# Altium integrated library Renesas Microprocessor SuperH.IntLib: 433 symbols (part 57 of 62)
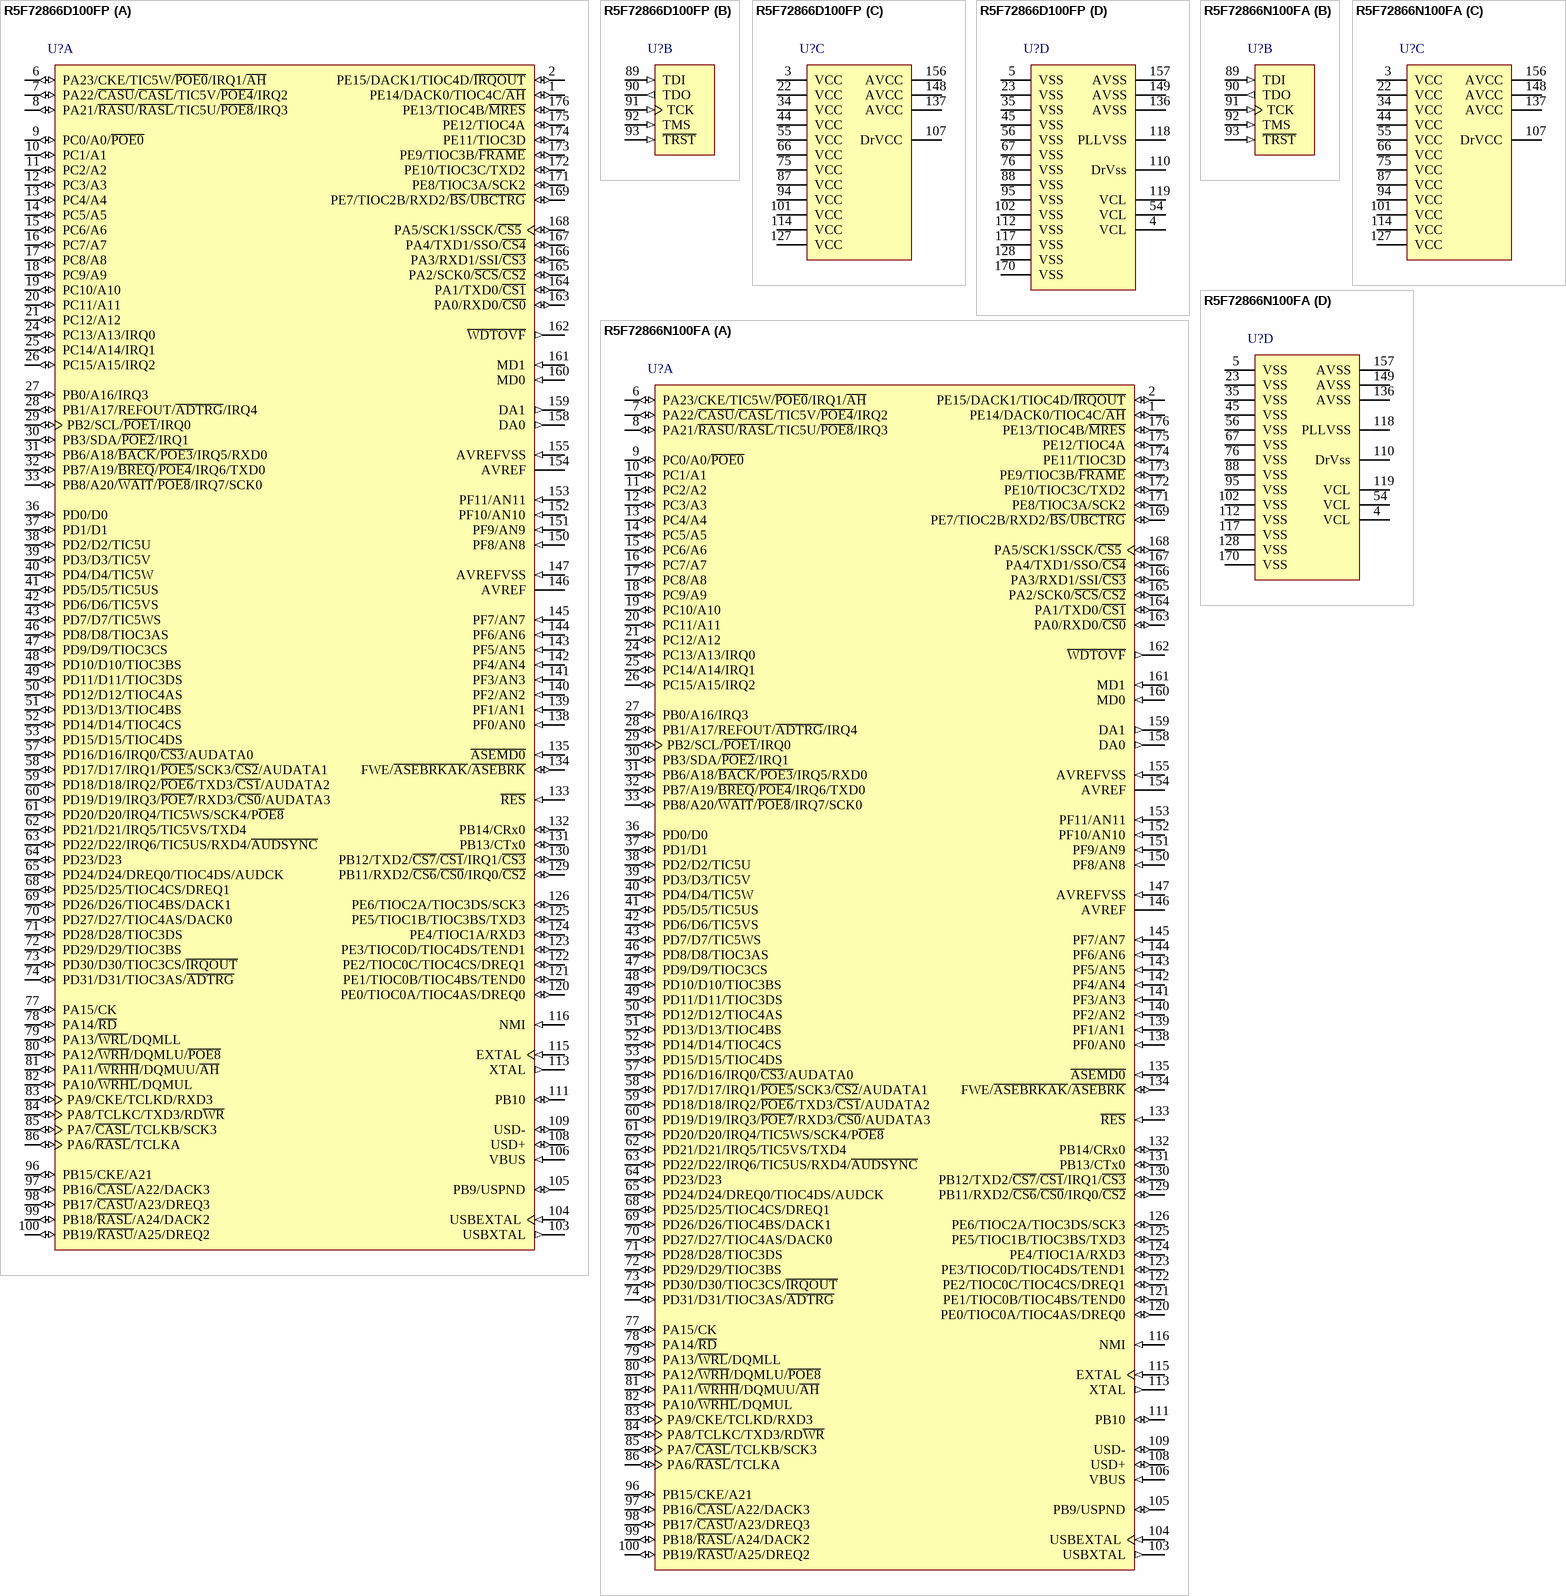
[diagram p314: symbols R5F72866D100FP to R5F72866N100FA]

## R5F72866N100FA
designator U?
32-Bit RISC Microcomputer, SH7280 Series, SH-2A core, 100MHz, 768K ROM, 32K RAM, 20x20mm 176-pin PLQFP, -20 to 85°C; Published: 28-Aug-2009; DatasheetVersion: Rev.1.00, Jun-2008; PackageVersion: Sep-2005; PackageReference: PLQP0176LB-A; Publisher: Altium Limited; PackageDescription: 176-Pin Plastic Low Profile QFP, 20 x 20 x 1.4 mm Body, 0.4 mm Pitch; Code_JEITA: P-LQFP176-20x20-0.40; ComponentLink1Description: Manufacturer Link; ComponentLink1URL: http://www.renesas.com/fmwk.jsp?cnt=sh7286_root.jsp&fp=/products/mpumcu/superh_family/sh7280_series/sh7286_group/; ComponentLink2Description: Datasheet; ComponentLink2URL: http://documentation.renesas.com/eng/products/mpumcu/rej09b0393_sh7280hm.pdf; ComponentLink3Description: Packaging Specification; ComponentLink3URL: http://sg.renesas.com/media/products/common_info/package/pdf/ic/code/plqp0176lb_a.pdf
footprint PLQP0176LB-A_N (Shrink QFP, 176-Leads, Body 20x20mm, Pitch 0.4mm, IPC Medium Density)
footprint PLQP0176LB-A_L (Shrink QFP, 176-Leads, Body 20x20mm, Pitch 0.4mm, IPC High Density)
footprint PLQP0176LB-A_M (Shrink QFP, 176-Leads, Body 20x20mm, Pitch 0.4mm, IPC Low Density)
part A pins: 1 PE14/DACK0/TIOC4C/~{AH} (io), 2 PE15/DACK1/TIOC4D/~{IRQOUT} (io), 6 PA23/CKE/TIC5W/~{POE0}/IRQ1/~{AH} (io), 7 PA22/~{CASU}/~{CASL}/TIC5V/~{POE4}/IRQ2 (io), 8 PA21/~{RASU}/~{RASL}/TIC5U/~{POE8}/IRQ3 (io), 9 PC0/A0/~{POE0} (io), 10 PC1/A1 (io), 11 PC2/A2 (io), 12 PC3/A3 (io), 13 PC4/A4 (io), 14 PC5/A5 (io), 15 PC6/A6 (io), 16 PC7/A7 (io), 17 PC8/A8 (io), 18 PC9/A9 (io), 19 PC10/A10 (io), 20 PC11/A11 (io), 21 PC12/A12 (io), 24 PC13/A13/IRQ0 (io), 25 PC14/A14/IRQ1 (io), 26 PC15/A15/IRQ2 (io), 27 PB0/A16/IRQ3 (io), 28 PB1/A17/REFOUT/~{ADTRG}/IRQ4 (io), 29 PB2/SCL/~{POE1}/IRQ0 (io), 30 PB3/SDA/~{POE2}/IRQ1 (io), 31 PB6/A18/~{BACK}/~{POE3}/IRQ5/RXD0 (io), 32 PB7/A19/~{BREQ}/~{POE4}/IRQ6/TXD0 (io), 33 PB8/A20/~{WAIT}/~{POE8}/IRQ7/SCK0 (io), 36 PD0/D0 (io), 37 PD1/D1 (io), 38 PD2/D2/TIC5U (io), 39 PD3/D3/TIC5V (io), 40 PD4/D4/TIC5W (io), 41 PD5/D5/TIC5US (io), 42 PD6/D6/TIC5VS (io), 43 PD7/D7/TIC5WS (io), 46 PD8/D8/TIOC3AS (io), 47 PD9/D9/TIOC3CS (io), 48 PD10/D10/TIOC3BS (io), 49 PD11/D11/TIOC3DS (io), 50 PD12/D12/TIOC4AS (io), 51 PD13/D13/TIOC4BS (io), 52 PD14/D14/TIOC4CS (io), 53 PD15/D15/TIOC4DS (io), 57 PD16/D16/IRQ0/~{CS3}/AUDATA0 (io), 58 PD17/D17/IRQ1/~{POE5}/SCK3/~{CS2}/AUDATA1 (io), 59 PD18/D18/IRQ2/~{POE6}/TXD3/~{CS1}/AUDATA2 (io), 60 PD19/D19/IRQ3/~{POE7}/RXD3/~{CS0}/AUDATA3 (io), 61 PD20/D20/IRQ4/TIC5WS/SCK4/P~{OE8} (io), 62 PD21/D21/IRQ5/TIC5VS/TXD4 (io), 63 PD22/D22/IRQ6/TIC5US/RXD4/~{AUDSYNC} (io), 64 PD23/D23 (io), 65 PD24/D24/DREQ0/TIOC4DS/AUDCK (io), 68 PD25/D25/TIOC4CS/DREQ1 (io), 69 PD26/D26/TIOC4BS/DACK1 (io), 70 PD27/D27/TIOC4AS/DACK0 (io), 71 PD28/D28/TIOC3DS (io), 72 PD29/D29/TIOC3BS (io), 73 PD30/D30/TIOC3CS/~{IRQOUT} (io), 74 PD31/D31/TIOC3AS/~{ADTRG} (io), 77 PA15/CK (io), 78 PA14/~{RD} (io), 79 PA13/~{WRL}/DQMLL (io), 80 PA12/~{WRH}/DQMLU/~{POE8} (io), 81 PA11/~{WRHH}/DQMUU/~{AH} (io), 82 PA10/~{WRHL}/DQMUL (io), 83 PA9/CKE/TCLKD/RXD3 (io), 84 PA8/TCLKC/TXD3/RD~{WR} (io), 85 PA7/~{CASL}/TCLKB/SCK3 (io), 86 PA6/~{RASL}/TCLKA (io), 96 PB15/CKE/A21 (io), 97 PB16/~{CASL}/A22/DACK3 (io), 98 PB17/~{CASU}/A23/DREQ3 (io), 99 PB18/~{RASL}/A24/DACK2 (io), 100 PB19/~{RASU}/A25/DREQ2 (io), 103 USBXTAL (out), 104 USBEXTAL (in), 105 PB9/USPND (io), 106 VBUS (in), 108 USD+ (io), 109 USD- (io), 111 PB10 (io), 113 XTAL (out), 115 EXTAL (in), 116 NMI (in), 120 PE0/TIOC0A/TIOC4AS/DREQ0 (io), 121 PE1/TIOC0B/TIOC4BS/TEND0 (io), 122 PE2/TIOC0C/TIOC4CS/DREQ1 (io), 123 PE3/TIOC0D/TIOC4DS/TEND1 (io), 124 PE4/TIOC1A/RXD3 (io), 125 PE5/TIOC1B/TIOC3BS/TXD3 (io), 126 PE6/TIOC2A/TIOC3DS/SCK3 (io), 129 PB11/RXD2/~{CS6}/~{CS0}/IRQ0/~{CS2} (io), 130 PB12/TXD2/~{CS7}/~{CS1}/IRQ1/~{CS3} (io), 131 PB13/CTx0 (io), 132 PB14/CRx0 (io), 133 ~{RES} (in), 134 FWE/~{ASEBRKAK}/~{ASEBRK} (io), 135 ~{ASEMD0} (in), 138 PF0/AN0 (in), 139 PF1/AN1 (in), 140 PF2/AN2 (in), 141 PF3/AN3 (in), 142 PF4/AN4 (in), 143 PF5/AN5 (in), 144 PF6/AN6 (in), 145 PF7/AN7 (in), 146 AVREF (power), 147 AVREFVSS (in), 150 PF8/AN8 (in), 151 PF9/AN9 (in), 152 PF10/AN10 (in), 153 PF11/AN11 (in), 154 AVREF (power), 155 AVREFVSS (in), 158 DA0 (out), 159 DA1 (out), 160 MD0 (in), 161 MD1 (in), 162 ~{WDTOVF} (out), 163 PA0/RXD0/~{CS0} (io), 164 PA1/TXD0/~{CS1} (io), 165 PA2/SCK0/~{SCS}/~{CS2} (io), 166 PA3/RXD1/SSI/~{CS3} (io), 167 PA4/TXD1/SSO/~{CS4} (io), 168 PA5/SCK1/SSCK/~{CS5} (io), 169 PE7/TIOC2B/RXD2/~{BS}/~{UBCTRG} (io), 171 PE8/TIOC3A/SCK2 (io), 172 PE10/TIOC3C/TXD2 (io), 173 PE9/TIOC3B/~{FRAME} (io), 174 PE11/TIOC3D (io), 175 PE12/TIOC4A (io), 176 PE13/TIOC4B/~{MRES} (io)
part B pins: 89 TDI (in), 90 TDO (out), 91 TCK (in), 92 TMS (in), 93 ~{TRST} (in)
part C pins: 3 VCC (power), 22 VCC (power), 34 VCC (power), 44 VCC (power), 55 VCC (power), 66 VCC (power), 75 VCC (power), 87 VCC (power), 94 VCC (power), 101 VCC (power), 107 DrVCC (power), 114 VCC (power), 127 VCC (power), 137 AVCC (power), 148 AVCC (power), 156 AVCC (power)
part D pins: 4 VCL (power), 5 VSS (power), 23 VSS (power), 35 VSS (power), 45 VSS (power), 54 VCL (power), 56 VSS (power), 67 VSS (power), 76 VSS (power), 88 VSS (power), 95 VSS (power), 102 VSS (power), 110 DrVss (power), 112 VSS (power), 117 VSS (power), 118 PLLVSS (power), 119 VCL (power), 128 VSS (power), 136 AVSS (power), 149 AVSS (power), 157 AVSS (power), 170 VSS (power)

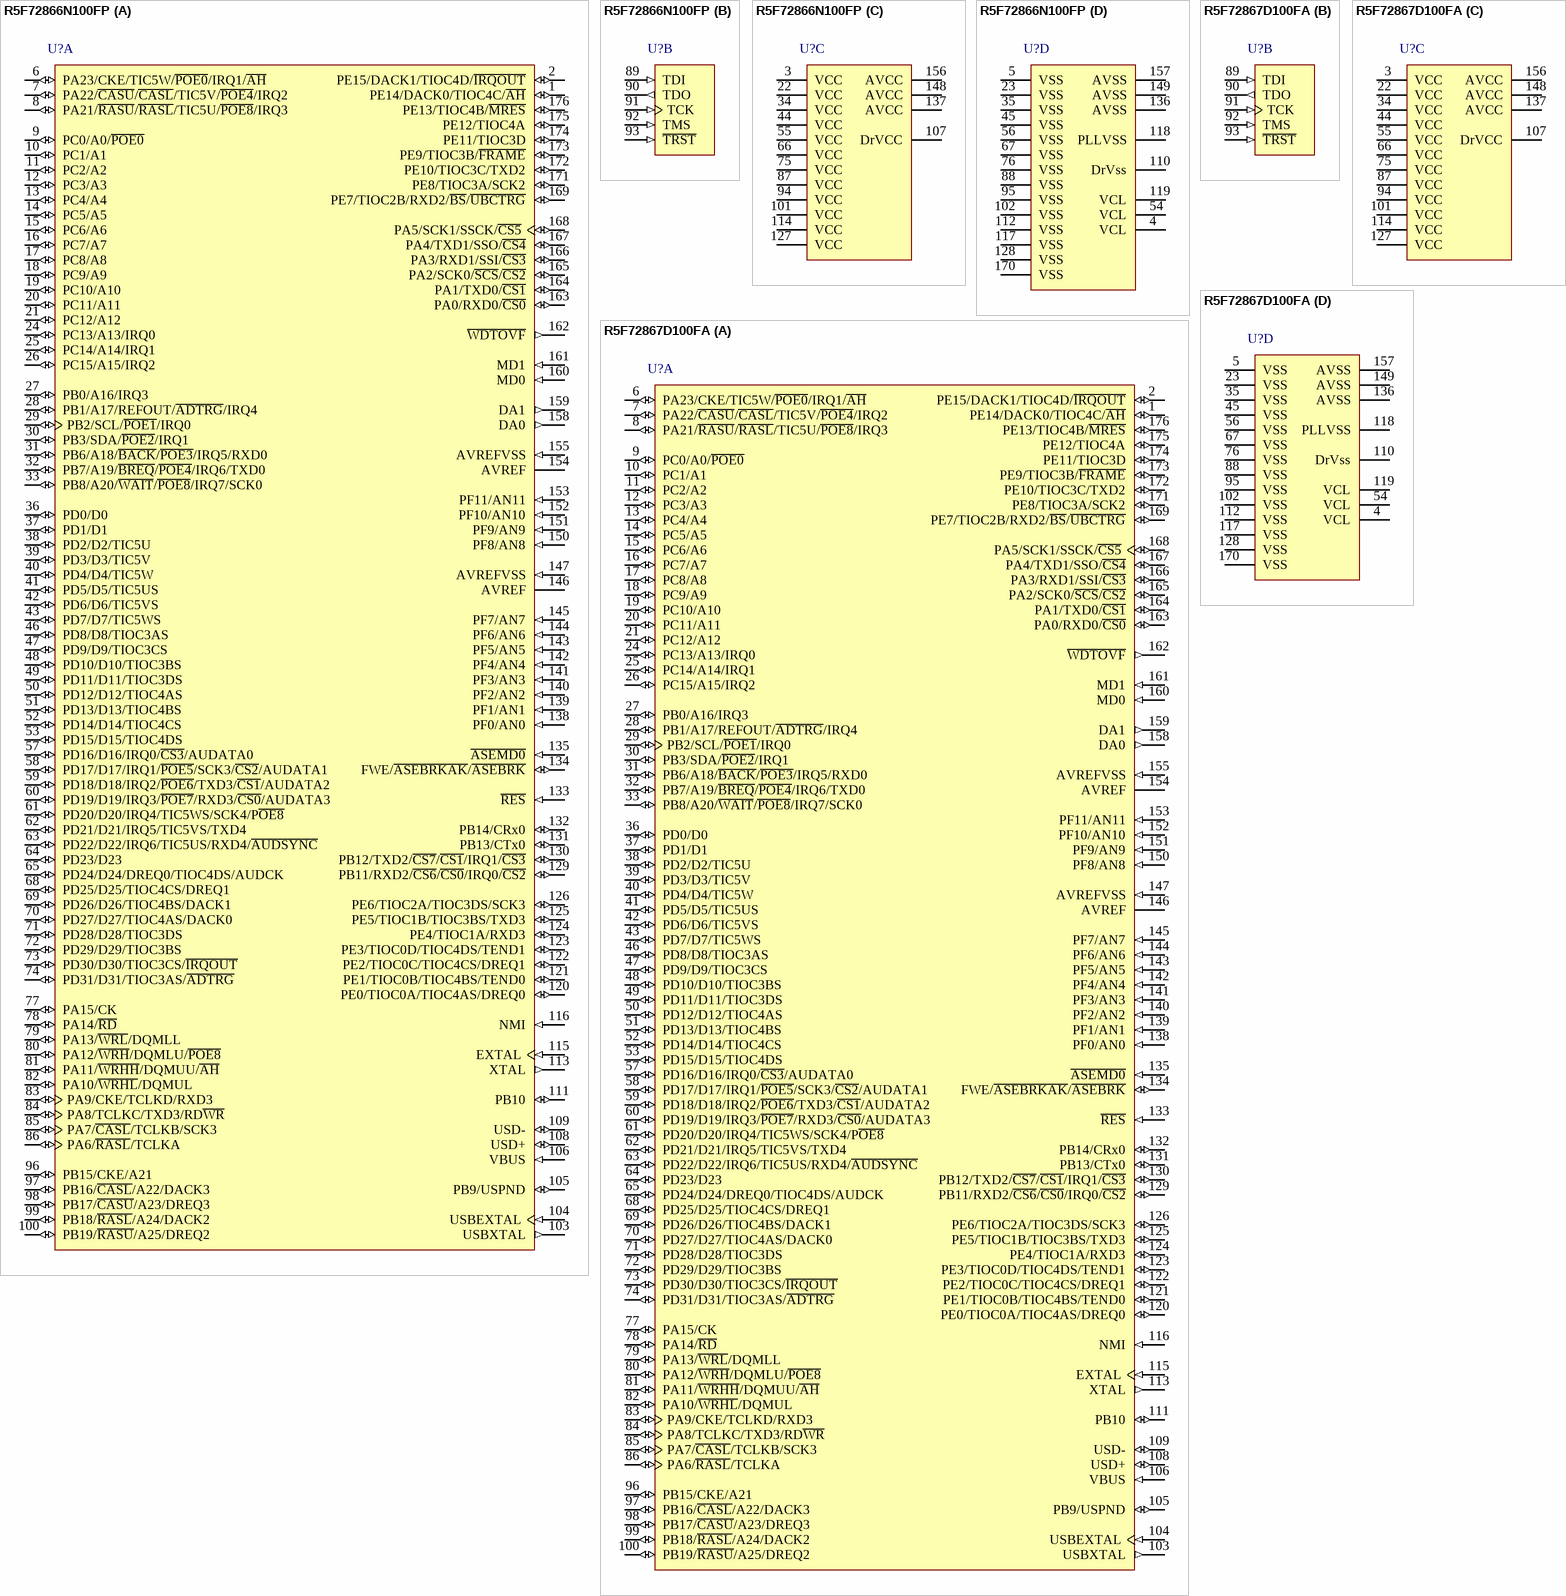
[diagram p190: symbols R5F72866N100FP to R5F72867D100FA]

## R5F72866N100FP
designator U?
32-Bit RISC Microcomputer, SH7280 Series, SH-2A core, 100MHz, 768K ROM, 32K RAM, 24x24mm 176-pin PLQFP, -20 to 85°C; Published: 28-Aug-2009; DatasheetVersion: Rev.1.00, Jun-2008; PackageVersion: Oct-2005; PackageReference: PLQP0176KB-A; Publisher: Altium Limited; PackageDescription: 176-Pin Plastic Low Profile QFP, 24 x 24 x 1.4 mm Body, 0.5 mm Pitch; Code_JEITA: P-LQFP176-24x24-0.50; ComponentLink1Description: Manufacturer Link; ComponentLink1URL: http://www.renesas.com/fmwk.jsp?cnt=sh7286_root.jsp&fp=/products/mpumcu/superh_family/sh7280_series/sh7286_group/; ComponentLink2Description: Datasheet; ComponentLink2URL: http://documentation.renesas.com/eng/products/mpumcu/rej09b0393_sh7280hm.pdf; ComponentLink3Description: Packaging Specification; ComponentLink3URL: http://sg.renesas.com/media/products/common_info/package/pdf/ic/code/plqp0176kb_a.pdf
footprint PLQP0176KB-A_N (Shrink QFP, 176-Leads, Body 24x24mm, Pitch 0.5mm, IPC Medium Density)
footprint PLQP0176KB-A_L (Shrink QFP, 176-Leads, Body 24x24mm, Pitch 0.5mm, IPC High Density)
footprint PLQP0176KB-A_M (Shrink QFP, 176-Leads, Body 24x24mm, Pitch 0.5mm, IPC Low Density)
part A pins: 1 PE14/DACK0/TIOC4C/~{AH} (io), 2 PE15/DACK1/TIOC4D/~{IRQOUT} (io), 6 PA23/CKE/TIC5W/~{POE0}/IRQ1/~{AH} (io), 7 PA22/~{CASU}/~{CASL}/TIC5V/~{POE4}/IRQ2 (io), 8 PA21/~{RASU}/~{RASL}/TIC5U/~{POE8}/IRQ3 (io), 9 PC0/A0/~{POE0} (io), 10 PC1/A1 (io), 11 PC2/A2 (io), 12 PC3/A3 (io), 13 PC4/A4 (io), 14 PC5/A5 (io), 15 PC6/A6 (io), 16 PC7/A7 (io), 17 PC8/A8 (io), 18 PC9/A9 (io), 19 PC10/A10 (io), 20 PC11/A11 (io), 21 PC12/A12 (io), 24 PC13/A13/IRQ0 (io), 25 PC14/A14/IRQ1 (io), 26 PC15/A15/IRQ2 (io), 27 PB0/A16/IRQ3 (io), 28 PB1/A17/REFOUT/~{ADTRG}/IRQ4 (io), 29 PB2/SCL/~{POE1}/IRQ0 (io), 30 PB3/SDA/~{POE2}/IRQ1 (io), 31 PB6/A18/~{BACK}/~{POE3}/IRQ5/RXD0 (io), 32 PB7/A19/~{BREQ}/~{POE4}/IRQ6/TXD0 (io), 33 PB8/A20/~{WAIT}/~{POE8}/IRQ7/SCK0 (io), 36 PD0/D0 (io), 37 PD1/D1 (io), 38 PD2/D2/TIC5U (io), 39 PD3/D3/TIC5V (io), 40 PD4/D4/TIC5W (io), 41 PD5/D5/TIC5US (io), 42 PD6/D6/TIC5VS (io), 43 PD7/D7/TIC5WS (io), 46 PD8/D8/TIOC3AS (io), 47 PD9/D9/TIOC3CS (io), 48 PD10/D10/TIOC3BS (io), 49 PD11/D11/TIOC3DS (io), 50 PD12/D12/TIOC4AS (io), 51 PD13/D13/TIOC4BS (io), 52 PD14/D14/TIOC4CS (io), 53 PD15/D15/TIOC4DS (io), 57 PD16/D16/IRQ0/~{CS3}/AUDATA0 (io), 58 PD17/D17/IRQ1/~{POE5}/SCK3/~{CS2}/AUDATA1 (io), 59 PD18/D18/IRQ2/~{POE6}/TXD3/~{CS1}/AUDATA2 (io), 60 PD19/D19/IRQ3/~{POE7}/RXD3/~{CS0}/AUDATA3 (io), 61 PD20/D20/IRQ4/TIC5WS/SCK4/P~{OE8} (io), 62 PD21/D21/IRQ5/TIC5VS/TXD4 (io), 63 PD22/D22/IRQ6/TIC5US/RXD4/~{AUDSYNC} (io), 64 PD23/D23 (io), 65 PD24/D24/DREQ0/TIOC4DS/AUDCK (io), 68 PD25/D25/TIOC4CS/DREQ1 (io), 69 PD26/D26/TIOC4BS/DACK1 (io), 70 PD27/D27/TIOC4AS/DACK0 (io), 71 PD28/D28/TIOC3DS (io), 72 PD29/D29/TIOC3BS (io), 73 PD30/D30/TIOC3CS/~{IRQOUT} (io), 74 PD31/D31/TIOC3AS/~{ADTRG} (io), 77 PA15/CK (io), 78 PA14/~{RD} (io), 79 PA13/~{WRL}/DQMLL (io), 80 PA12/~{WRH}/DQMLU/~{POE8} (io), 81 PA11/~{WRHH}/DQMUU/~{AH} (io), 82 PA10/~{WRHL}/DQMUL (io), 83 PA9/CKE/TCLKD/RXD3 (io), 84 PA8/TCLKC/TXD3/RD~{WR} (io), 85 PA7/~{CASL}/TCLKB/SCK3 (io), 86 PA6/~{RASL}/TCLKA (io), 96 PB15/CKE/A21 (io), 97 PB16/~{CASL}/A22/DACK3 (io), 98 PB17/~{CASU}/A23/DREQ3 (io), 99 PB18/~{RASL}/A24/DACK2 (io), 100 PB19/~{RASU}/A25/DREQ2 (io), 103 USBXTAL (out), 104 USBEXTAL (in), 105 PB9/USPND (io), 106 VBUS (in), 108 USD+ (io), 109 USD- (io), 111 PB10 (io), 113 XTAL (out), 115 EXTAL (in), 116 NMI (in), 120 PE0/TIOC0A/TIOC4AS/DREQ0 (io), 121 PE1/TIOC0B/TIOC4BS/TEND0 (io), 122 PE2/TIOC0C/TIOC4CS/DREQ1 (io), 123 PE3/TIOC0D/TIOC4DS/TEND1 (io), 124 PE4/TIOC1A/RXD3 (io), 125 PE5/TIOC1B/TIOC3BS/TXD3 (io), 126 PE6/TIOC2A/TIOC3DS/SCK3 (io), 129 PB11/RXD2/~{CS6}/~{CS0}/IRQ0/~{CS2} (io), 130 PB12/TXD2/~{CS7}/~{CS1}/IRQ1/~{CS3} (io), 131 PB13/CTx0 (io), 132 PB14/CRx0 (io), 133 ~{RES} (in), 134 FWE/~{ASEBRKAK}/~{ASEBRK} (io), 135 ~{ASEMD0} (in), 138 PF0/AN0 (in), 139 PF1/AN1 (in), 140 PF2/AN2 (in), 141 PF3/AN3 (in), 142 PF4/AN4 (in), 143 PF5/AN5 (in), 144 PF6/AN6 (in), 145 PF7/AN7 (in), 146 AVREF (power), 147 AVREFVSS (in), 150 PF8/AN8 (in), 151 PF9/AN9 (in), 152 PF10/AN10 (in), 153 PF11/AN11 (in), 154 AVREF (power), 155 AVREFVSS (in), 158 DA0 (out), 159 DA1 (out), 160 MD0 (in), 161 MD1 (in), 162 ~{WDTOVF} (out), 163 PA0/RXD0/~{CS0} (io), 164 PA1/TXD0/~{CS1} (io), 165 PA2/SCK0/~{SCS}/~{CS2} (io), 166 PA3/RXD1/SSI/~{CS3} (io), 167 PA4/TXD1/SSO/~{CS4} (io), 168 PA5/SCK1/SSCK/~{CS5} (io), 169 PE7/TIOC2B/RXD2/~{BS}/~{UBCTRG} (io), 171 PE8/TIOC3A/SCK2 (io), 172 PE10/TIOC3C/TXD2 (io), 173 PE9/TIOC3B/~{FRAME} (io), 174 PE11/TIOC3D (io), 175 PE12/TIOC4A (io), 176 PE13/TIOC4B/~{MRES} (io)
part B pins: 89 TDI (in), 90 TDO (out), 91 TCK (in), 92 TMS (in), 93 ~{TRST} (in)
part C pins: 3 VCC (power), 22 VCC (power), 34 VCC (power), 44 VCC (power), 55 VCC (power), 66 VCC (power), 75 VCC (power), 87 VCC (power), 94 VCC (power), 101 VCC (power), 107 DrVCC (power), 114 VCC (power), 127 VCC (power), 137 AVCC (power), 148 AVCC (power), 156 AVCC (power)
part D pins: 4 VCL (power), 5 VSS (power), 23 VSS (power), 35 VSS (power), 45 VSS (power), 54 VCL (power), 56 VSS (power), 67 VSS (power), 76 VSS (power), 88 VSS (power), 95 VSS (power), 102 VSS (power), 110 DrVss (power), 112 VSS (power), 117 VSS (power), 118 PLLVSS (power), 119 VCL (power), 128 VSS (power), 136 AVSS (power), 149 AVSS (power), 157 AVSS (power), 170 VSS (power)

## R5F72867D100FA
designator U?
32-Bit RISC Microcomputer, SH7280 Series, SH-2A core, 100MHz, 1M ROM, 32K RAM, 20x20mm 176-pin PLQFP, -40 to 85°C; Published: 28-Aug-2009; DatasheetVersion: Rev.1.00, Jun-2008; PackageVersion: Sep-2005; PackageReference: PLQP0176LB-A; Publisher: Altium Limited; PackageDescription: 176-Pin Plastic Low Profile QFP, 20 x 20 x 1.4 mm Body, 0.4 mm Pitch; Code_JEITA: P-LQFP176-20x20-0.40; ComponentLink1Description: Manufacturer Link; ComponentLink1URL: http://www.renesas.com/fmwk.jsp?cnt=sh7286_root.jsp&fp=/products/mpumcu/superh_family/sh7280_series/sh7286_group/; ComponentLink2Description: Datasheet; ComponentLink2URL: http://documentation.renesas.com/eng/products/mpumcu/rej09b0393_sh7280hm.pdf; ComponentLink3Description: Packaging Specification; ComponentLink3URL: http://sg.renesas.com/media/products/common_info/package/pdf/ic/code/plqp0176lb_a.pdf
footprint PLQP0176LB-A_N (Shrink QFP, 176-Leads, Body 20x20mm, Pitch 0.4mm, IPC Medium Density)
footprint PLQP0176LB-A_L (Shrink QFP, 176-Leads, Body 20x20mm, Pitch 0.4mm, IPC High Density)
footprint PLQP0176LB-A_M (Shrink QFP, 176-Leads, Body 20x20mm, Pitch 0.4mm, IPC Low Density)
part A pins: 1 PE14/DACK0/TIOC4C/~{AH} (io), 2 PE15/DACK1/TIOC4D/~{IRQOUT} (io), 6 PA23/CKE/TIC5W/~{POE0}/IRQ1/~{AH} (io), 7 PA22/~{CASU}/~{CASL}/TIC5V/~{POE4}/IRQ2 (io), 8 PA21/~{RASU}/~{RASL}/TIC5U/~{POE8}/IRQ3 (io), 9 PC0/A0/~{POE0} (io), 10 PC1/A1 (io), 11 PC2/A2 (io), 12 PC3/A3 (io), 13 PC4/A4 (io), 14 PC5/A5 (io), 15 PC6/A6 (io), 16 PC7/A7 (io), 17 PC8/A8 (io), 18 PC9/A9 (io), 19 PC10/A10 (io), 20 PC11/A11 (io), 21 PC12/A12 (io), 24 PC13/A13/IRQ0 (io), 25 PC14/A14/IRQ1 (io), 26 PC15/A15/IRQ2 (io), 27 PB0/A16/IRQ3 (io), 28 PB1/A17/REFOUT/~{ADTRG}/IRQ4 (io), 29 PB2/SCL/~{POE1}/IRQ0 (io), 30 PB3/SDA/~{POE2}/IRQ1 (io), 31 PB6/A18/~{BACK}/~{POE3}/IRQ5/RXD0 (io), 32 PB7/A19/~{BREQ}/~{POE4}/IRQ6/TXD0 (io), 33 PB8/A20/~{WAIT}/~{POE8}/IRQ7/SCK0 (io), 36 PD0/D0 (io), 37 PD1/D1 (io), 38 PD2/D2/TIC5U (io), 39 PD3/D3/TIC5V (io), 40 PD4/D4/TIC5W (io), 41 PD5/D5/TIC5US (io), 42 PD6/D6/TIC5VS (io), 43 PD7/D7/TIC5WS (io), 46 PD8/D8/TIOC3AS (io), 47 PD9/D9/TIOC3CS (io), 48 PD10/D10/TIOC3BS (io), 49 PD11/D11/TIOC3DS (io), 50 PD12/D12/TIOC4AS (io), 51 PD13/D13/TIOC4BS (io), 52 PD14/D14/TIOC4CS (io), 53 PD15/D15/TIOC4DS (io), 57 PD16/D16/IRQ0/~{CS3}/AUDATA0 (io), 58 PD17/D17/IRQ1/~{POE5}/SCK3/~{CS2}/AUDATA1 (io), 59 PD18/D18/IRQ2/~{POE6}/TXD3/~{CS1}/AUDATA2 (io), 60 PD19/D19/IRQ3/~{POE7}/RXD3/~{CS0}/AUDATA3 (io), 61 PD20/D20/IRQ4/TIC5WS/SCK4/P~{OE8} (io), 62 PD21/D21/IRQ5/TIC5VS/TXD4 (io), 63 PD22/D22/IRQ6/TIC5US/RXD4/~{AUDSYNC} (io), 64 PD23/D23 (io), 65 PD24/D24/DREQ0/TIOC4DS/AUDCK (io), 68 PD25/D25/TIOC4CS/DREQ1 (io), 69 PD26/D26/TIOC4BS/DACK1 (io), 70 PD27/D27/TIOC4AS/DACK0 (io), 71 PD28/D28/TIOC3DS (io), 72 PD29/D29/TIOC3BS (io), 73 PD30/D30/TIOC3CS/~{IRQOUT} (io), 74 PD31/D31/TIOC3AS/~{ADTRG} (io), 77 PA15/CK (io), 78 PA14/~{RD} (io), 79 PA13/~{WRL}/DQMLL (io), 80 PA12/~{WRH}/DQMLU/~{POE8} (io), 81 PA11/~{WRHH}/DQMUU/~{AH} (io), 82 PA10/~{WRHL}/DQMUL (io), 83 PA9/CKE/TCLKD/RXD3 (io), 84 PA8/TCLKC/TXD3/RD~{WR} (io), 85 PA7/~{CASL}/TCLKB/SCK3 (io), 86 PA6/~{RASL}/TCLKA (io), 96 PB15/CKE/A21 (io), 97 PB16/~{CASL}/A22/DACK3 (io), 98 PB17/~{CASU}/A23/DREQ3 (io), 99 PB18/~{RASL}/A24/DACK2 (io), 100 PB19/~{RASU}/A25/DREQ2 (io), 103 USBXTAL (out), 104 USBEXTAL (in), 105 PB9/USPND (io), 106 VBUS (in), 108 USD+ (io), 109 USD- (io), 111 PB10 (io), 113 XTAL (out), 115 EXTAL (in), 116 NMI (in), 120 PE0/TIOC0A/TIOC4AS/DREQ0 (io), 121 PE1/TIOC0B/TIOC4BS/TEND0 (io), 122 PE2/TIOC0C/TIOC4CS/DREQ1 (io), 123 PE3/TIOC0D/TIOC4DS/TEND1 (io), 124 PE4/TIOC1A/RXD3 (io), 125 PE5/TIOC1B/TIOC3BS/TXD3 (io), 126 PE6/TIOC2A/TIOC3DS/SCK3 (io), 129 PB11/RXD2/~{CS6}/~{CS0}/IRQ0/~{CS2} (io), 130 PB12/TXD2/~{CS7}/~{CS1}/IRQ1/~{CS3} (io), 131 PB13/CTx0 (io), 132 PB14/CRx0 (io), 133 ~{RES} (in), 134 FWE/~{ASEBRKAK}/~{ASEBRK} (io), 135 ~{ASEMD0} (in), 138 PF0/AN0 (in), 139 PF1/AN1 (in), 140 PF2/AN2 (in), 141 PF3/AN3 (in), 142 PF4/AN4 (in), 143 PF5/AN5 (in), 144 PF6/AN6 (in), 145 PF7/AN7 (in), 146 AVREF (power), 147 AVREFVSS (in), 150 PF8/AN8 (in), 151 PF9/AN9 (in), 152 PF10/AN10 (in), 153 PF11/AN11 (in), 154 AVREF (power), 155 AVREFVSS (in), 158 DA0 (out), 159 DA1 (out), 160 MD0 (in), 161 MD1 (in), 162 ~{WDTOVF} (out), 163 PA0/RXD0/~{CS0} (io), 164 PA1/TXD0/~{CS1} (io), 165 PA2/SCK0/~{SCS}/~{CS2} (io), 166 PA3/RXD1/SSI/~{CS3} (io), 167 PA4/TXD1/SSO/~{CS4} (io), 168 PA5/SCK1/SSCK/~{CS5} (io), 169 PE7/TIOC2B/RXD2/~{BS}/~{UBCTRG} (io), 171 PE8/TIOC3A/SCK2 (io), 172 PE10/TIOC3C/TXD2 (io), 173 PE9/TIOC3B/~{FRAME} (io), 174 PE11/TIOC3D (io), 175 PE12/TIOC4A (io), 176 PE13/TIOC4B/~{MRES} (io)
part B pins: 89 TDI (in), 90 TDO (out), 91 TCK (in), 92 TMS (in), 93 ~{TRST} (in)
part C pins: 3 VCC (power), 22 VCC (power), 34 VCC (power), 44 VCC (power), 55 VCC (power), 66 VCC (power), 75 VCC (power), 87 VCC (power), 94 VCC (power), 101 VCC (power), 107 DrVCC (power), 114 VCC (power), 127 VCC (power), 137 AVCC (power), 148 AVCC (power), 156 AVCC (power)
part D pins: 4 VCL (power), 5 VSS (power), 23 VSS (power), 35 VSS (power), 45 VSS (power), 54 VCL (power), 56 VSS (power), 67 VSS (power), 76 VSS (power), 88 VSS (power), 95 VSS (power), 102 VSS (power), 110 DrVss (power), 112 VSS (power), 117 VSS (power), 118 PLLVSS (power), 119 VCL (power), 128 VSS (power), 136 AVSS (power), 149 AVSS (power), 157 AVSS (power), 170 VSS (power)

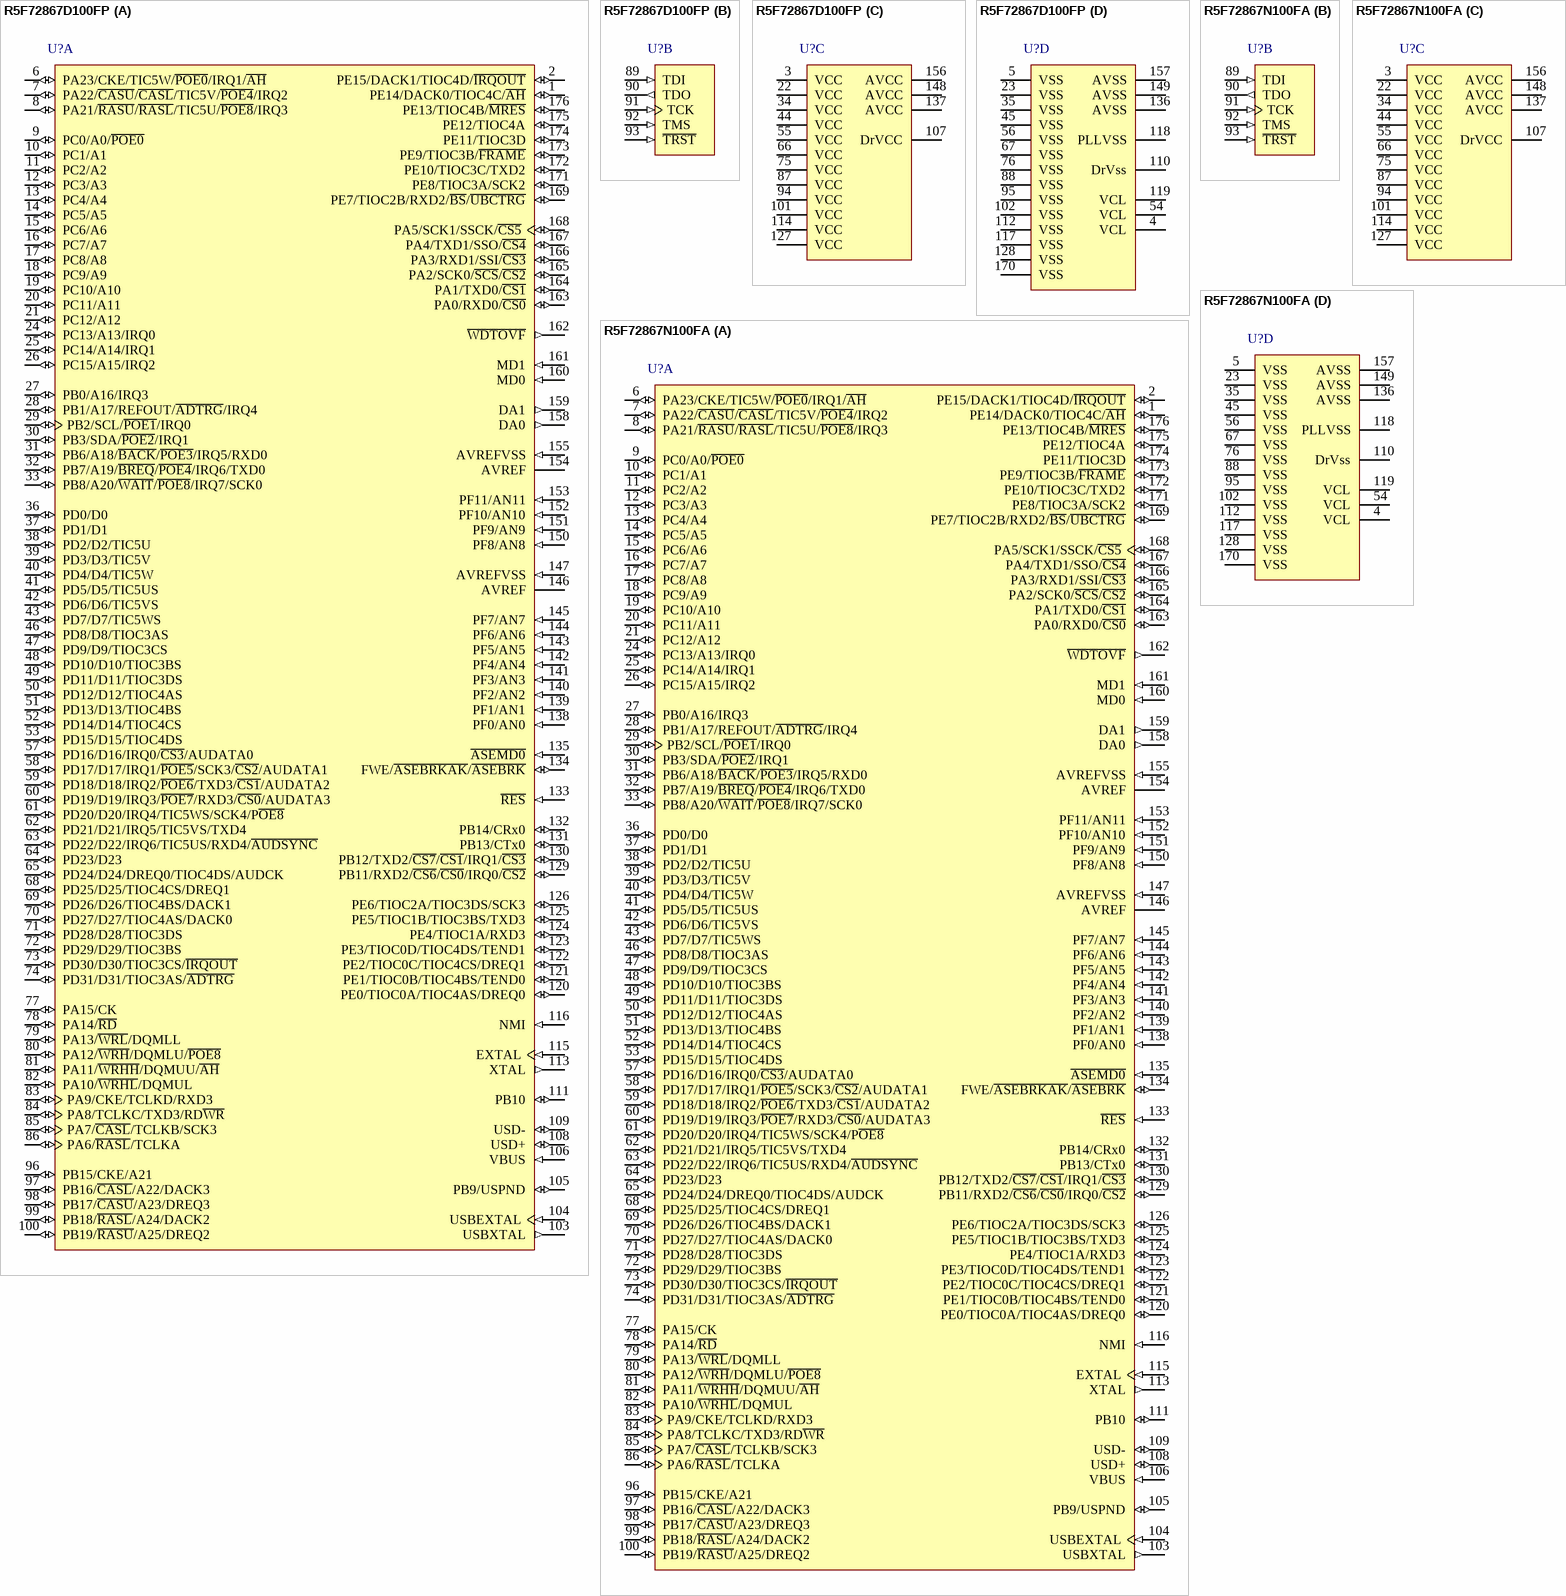
[diagram p191: symbols R5F72867D100FP to R5F72867N100FA]

## R5F72867D100FP
designator U?
32-Bit RISC Microcomputer, SH7280 Series, SH-2A core, 100MHz, 1M ROM, 32K RAM, 24x24mm 176-pin PLQFP, -40 to 85°C; Published: 28-Aug-2009; DatasheetVersion: Rev.1.00, Jun-2008; PackageVersion: Oct-2005; PackageReference: PLQP0176KB-A; Publisher: Altium Limited; PackageDescription: 176-Pin Plastic Low Profile QFP, 24 x 24 x 1.4 mm Body, 0.5 mm Pitch; Code_JEITA: P-LQFP176-24x24-0.50; ComponentLink1Description: Manufacturer Link; ComponentLink1URL: http://www.renesas.com/fmwk.jsp?cnt=sh7286_root.jsp&fp=/products/mpumcu/superh_family/sh7280_series/sh7286_group/; ComponentLink2Description: Datasheet; ComponentLink2URL: http://documentation.renesas.com/eng/products/mpumcu/rej09b0393_sh7280hm.pdf; ComponentLink3Description: Packaging Specification; ComponentLink3URL: http://sg.renesas.com/media/products/common_info/package/pdf/ic/code/plqp0176kb_a.pdf
footprint PLQP0176KB-A_N (Shrink QFP, 176-Leads, Body 24x24mm, Pitch 0.5mm, IPC Medium Density)
footprint PLQP0176KB-A_L (Shrink QFP, 176-Leads, Body 24x24mm, Pitch 0.5mm, IPC High Density)
footprint PLQP0176KB-A_M (Shrink QFP, 176-Leads, Body 24x24mm, Pitch 0.5mm, IPC Low Density)
part A pins: 1 PE14/DACK0/TIOC4C/~{AH} (io), 2 PE15/DACK1/TIOC4D/~{IRQOUT} (io), 6 PA23/CKE/TIC5W/~{POE0}/IRQ1/~{AH} (io), 7 PA22/~{CASU}/~{CASL}/TIC5V/~{POE4}/IRQ2 (io), 8 PA21/~{RASU}/~{RASL}/TIC5U/~{POE8}/IRQ3 (io), 9 PC0/A0/~{POE0} (io), 10 PC1/A1 (io), 11 PC2/A2 (io), 12 PC3/A3 (io), 13 PC4/A4 (io), 14 PC5/A5 (io), 15 PC6/A6 (io), 16 PC7/A7 (io), 17 PC8/A8 (io), 18 PC9/A9 (io), 19 PC10/A10 (io), 20 PC11/A11 (io), 21 PC12/A12 (io), 24 PC13/A13/IRQ0 (io), 25 PC14/A14/IRQ1 (io), 26 PC15/A15/IRQ2 (io), 27 PB0/A16/IRQ3 (io), 28 PB1/A17/REFOUT/~{ADTRG}/IRQ4 (io), 29 PB2/SCL/~{POE1}/IRQ0 (io), 30 PB3/SDA/~{POE2}/IRQ1 (io), 31 PB6/A18/~{BACK}/~{POE3}/IRQ5/RXD0 (io), 32 PB7/A19/~{BREQ}/~{POE4}/IRQ6/TXD0 (io), 33 PB8/A20/~{WAIT}/~{POE8}/IRQ7/SCK0 (io), 36 PD0/D0 (io), 37 PD1/D1 (io), 38 PD2/D2/TIC5U (io), 39 PD3/D3/TIC5V (io), 40 PD4/D4/TIC5W (io), 41 PD5/D5/TIC5US (io), 42 PD6/D6/TIC5VS (io), 43 PD7/D7/TIC5WS (io), 46 PD8/D8/TIOC3AS (io), 47 PD9/D9/TIOC3CS (io), 48 PD10/D10/TIOC3BS (io), 49 PD11/D11/TIOC3DS (io), 50 PD12/D12/TIOC4AS (io), 51 PD13/D13/TIOC4BS (io), 52 PD14/D14/TIOC4CS (io), 53 PD15/D15/TIOC4DS (io), 57 PD16/D16/IRQ0/~{CS3}/AUDATA0 (io), 58 PD17/D17/IRQ1/~{POE5}/SCK3/~{CS2}/AUDATA1 (io), 59 PD18/D18/IRQ2/~{POE6}/TXD3/~{CS1}/AUDATA2 (io), 60 PD19/D19/IRQ3/~{POE7}/RXD3/~{CS0}/AUDATA3 (io), 61 PD20/D20/IRQ4/TIC5WS/SCK4/P~{OE8} (io), 62 PD21/D21/IRQ5/TIC5VS/TXD4 (io), 63 PD22/D22/IRQ6/TIC5US/RXD4/~{AUDSYNC} (io), 64 PD23/D23 (io), 65 PD24/D24/DREQ0/TIOC4DS/AUDCK (io), 68 PD25/D25/TIOC4CS/DREQ1 (io), 69 PD26/D26/TIOC4BS/DACK1 (io), 70 PD27/D27/TIOC4AS/DACK0 (io), 71 PD28/D28/TIOC3DS (io), 72 PD29/D29/TIOC3BS (io), 73 PD30/D30/TIOC3CS/~{IRQOUT} (io), 74 PD31/D31/TIOC3AS/~{ADTRG} (io), 77 PA15/CK (io), 78 PA14/~{RD} (io), 79 PA13/~{WRL}/DQMLL (io), 80 PA12/~{WRH}/DQMLU/~{POE8} (io), 81 PA11/~{WRHH}/DQMUU/~{AH} (io), 82 PA10/~{WRHL}/DQMUL (io), 83 PA9/CKE/TCLKD/RXD3 (io), 84 PA8/TCLKC/TXD3/RD~{WR} (io), 85 PA7/~{CASL}/TCLKB/SCK3 (io), 86 PA6/~{RASL}/TCLKA (io), 96 PB15/CKE/A21 (io), 97 PB16/~{CASL}/A22/DACK3 (io), 98 PB17/~{CASU}/A23/DREQ3 (io), 99 PB18/~{RASL}/A24/DACK2 (io), 100 PB19/~{RASU}/A25/DREQ2 (io), 103 USBXTAL (out), 104 USBEXTAL (in), 105 PB9/USPND (io), 106 VBUS (in), 108 USD+ (io), 109 USD- (io), 111 PB10 (io), 113 XTAL (out), 115 EXTAL (in), 116 NMI (in), 120 PE0/TIOC0A/TIOC4AS/DREQ0 (io), 121 PE1/TIOC0B/TIOC4BS/TEND0 (io), 122 PE2/TIOC0C/TIOC4CS/DREQ1 (io), 123 PE3/TIOC0D/TIOC4DS/TEND1 (io), 124 PE4/TIOC1A/RXD3 (io), 125 PE5/TIOC1B/TIOC3BS/TXD3 (io), 126 PE6/TIOC2A/TIOC3DS/SCK3 (io), 129 PB11/RXD2/~{CS6}/~{CS0}/IRQ0/~{CS2} (io), 130 PB12/TXD2/~{CS7}/~{CS1}/IRQ1/~{CS3} (io), 131 PB13/CTx0 (io), 132 PB14/CRx0 (io), 133 ~{RES} (in), 134 FWE/~{ASEBRKAK}/~{ASEBRK} (io), 135 ~{ASEMD0} (in), 138 PF0/AN0 (in), 139 PF1/AN1 (in), 140 PF2/AN2 (in), 141 PF3/AN3 (in), 142 PF4/AN4 (in), 143 PF5/AN5 (in), 144 PF6/AN6 (in), 145 PF7/AN7 (in), 146 AVREF (power), 147 AVREFVSS (in), 150 PF8/AN8 (in), 151 PF9/AN9 (in), 152 PF10/AN10 (in), 153 PF11/AN11 (in), 154 AVREF (power), 155 AVREFVSS (in), 158 DA0 (out), 159 DA1 (out), 160 MD0 (in), 161 MD1 (in), 162 ~{WDTOVF} (out), 163 PA0/RXD0/~{CS0} (io), 164 PA1/TXD0/~{CS1} (io), 165 PA2/SCK0/~{SCS}/~{CS2} (io), 166 PA3/RXD1/SSI/~{CS3} (io), 167 PA4/TXD1/SSO/~{CS4} (io), 168 PA5/SCK1/SSCK/~{CS5} (io), 169 PE7/TIOC2B/RXD2/~{BS}/~{UBCTRG} (io), 171 PE8/TIOC3A/SCK2 (io), 172 PE10/TIOC3C/TXD2 (io), 173 PE9/TIOC3B/~{FRAME} (io), 174 PE11/TIOC3D (io), 175 PE12/TIOC4A (io), 176 PE13/TIOC4B/~{MRES} (io)
part B pins: 89 TDI (in), 90 TDO (out), 91 TCK (in), 92 TMS (in), 93 ~{TRST} (in)
part C pins: 3 VCC (power), 22 VCC (power), 34 VCC (power), 44 VCC (power), 55 VCC (power), 66 VCC (power), 75 VCC (power), 87 VCC (power), 94 VCC (power), 101 VCC (power), 107 DrVCC (power), 114 VCC (power), 127 VCC (power), 137 AVCC (power), 148 AVCC (power), 156 AVCC (power)
part D pins: 4 VCL (power), 5 VSS (power), 23 VSS (power), 35 VSS (power), 45 VSS (power), 54 VCL (power), 56 VSS (power), 67 VSS (power), 76 VSS (power), 88 VSS (power), 95 VSS (power), 102 VSS (power), 110 DrVss (power), 112 VSS (power), 117 VSS (power), 118 PLLVSS (power), 119 VCL (power), 128 VSS (power), 136 AVSS (power), 149 AVSS (power), 157 AVSS (power), 170 VSS (power)

## R5F72867N100FA
designator U?
32-Bit RISC Microcomputer, SH7280 Series, SH-2A core, 100MHz, 1M ROM, 32K RAM, 20x20mm 176-pin PLQFP, -20 to 85°C; Published: 28-Aug-2009; DatasheetVersion: Rev.1.00, Jun-2008; PackageVersion: Sep-2005; PackageReference: PLQP0176LB-A; Publisher: Altium Limited; PackageDescription: 176-Pin Plastic Low Profile QFP, 20 x 20 x 1.4 mm Body, 0.4 mm Pitch; Code_JEITA: P-LQFP176-20x20-0.40; ComponentLink1Description: Manufacturer Link; ComponentLink1URL: http://www.renesas.com/fmwk.jsp?cnt=sh7286_root.jsp&fp=/products/mpumcu/superh_family/sh7280_series/sh7286_group/; ComponentLink2Description: Datasheet; ComponentLink2URL: http://documentation.renesas.com/eng/products/mpumcu/rej09b0393_sh7280hm.pdf; ComponentLink3Description: Packaging Specification; ComponentLink3URL: http://sg.renesas.com/media/products/common_info/package/pdf/ic/code/plqp0176lb_a.pdf
footprint PLQP0176LB-A_N (Shrink QFP, 176-Leads, Body 20x20mm, Pitch 0.4mm, IPC Medium Density)
footprint PLQP0176LB-A_L (Shrink QFP, 176-Leads, Body 20x20mm, Pitch 0.4mm, IPC High Density)
footprint PLQP0176LB-A_M (Shrink QFP, 176-Leads, Body 20x20mm, Pitch 0.4mm, IPC Low Density)
part A pins: 1 PE14/DACK0/TIOC4C/~{AH} (io), 2 PE15/DACK1/TIOC4D/~{IRQOUT} (io), 6 PA23/CKE/TIC5W/~{POE0}/IRQ1/~{AH} (io), 7 PA22/~{CASU}/~{CASL}/TIC5V/~{POE4}/IRQ2 (io), 8 PA21/~{RASU}/~{RASL}/TIC5U/~{POE8}/IRQ3 (io), 9 PC0/A0/~{POE0} (io), 10 PC1/A1 (io), 11 PC2/A2 (io), 12 PC3/A3 (io), 13 PC4/A4 (io), 14 PC5/A5 (io), 15 PC6/A6 (io), 16 PC7/A7 (io), 17 PC8/A8 (io), 18 PC9/A9 (io), 19 PC10/A10 (io), 20 PC11/A11 (io), 21 PC12/A12 (io), 24 PC13/A13/IRQ0 (io), 25 PC14/A14/IRQ1 (io), 26 PC15/A15/IRQ2 (io), 27 PB0/A16/IRQ3 (io), 28 PB1/A17/REFOUT/~{ADTRG}/IRQ4 (io), 29 PB2/SCL/~{POE1}/IRQ0 (io), 30 PB3/SDA/~{POE2}/IRQ1 (io), 31 PB6/A18/~{BACK}/~{POE3}/IRQ5/RXD0 (io), 32 PB7/A19/~{BREQ}/~{POE4}/IRQ6/TXD0 (io), 33 PB8/A20/~{WAIT}/~{POE8}/IRQ7/SCK0 (io), 36 PD0/D0 (io), 37 PD1/D1 (io), 38 PD2/D2/TIC5U (io), 39 PD3/D3/TIC5V (io), 40 PD4/D4/TIC5W (io), 41 PD5/D5/TIC5US (io), 42 PD6/D6/TIC5VS (io), 43 PD7/D7/TIC5WS (io), 46 PD8/D8/TIOC3AS (io), 47 PD9/D9/TIOC3CS (io), 48 PD10/D10/TIOC3BS (io), 49 PD11/D11/TIOC3DS (io), 50 PD12/D12/TIOC4AS (io), 51 PD13/D13/TIOC4BS (io), 52 PD14/D14/TIOC4CS (io), 53 PD15/D15/TIOC4DS (io), 57 PD16/D16/IRQ0/~{CS3}/AUDATA0 (io), 58 PD17/D17/IRQ1/~{POE5}/SCK3/~{CS2}/AUDATA1 (io), 59 PD18/D18/IRQ2/~{POE6}/TXD3/~{CS1}/AUDATA2 (io), 60 PD19/D19/IRQ3/~{POE7}/RXD3/~{CS0}/AUDATA3 (io), 61 PD20/D20/IRQ4/TIC5WS/SCK4/P~{OE8} (io), 62 PD21/D21/IRQ5/TIC5VS/TXD4 (io), 63 PD22/D22/IRQ6/TIC5US/RXD4/~{AUDSYNC} (io), 64 PD23/D23 (io), 65 PD24/D24/DREQ0/TIOC4DS/AUDCK (io), 68 PD25/D25/TIOC4CS/DREQ1 (io), 69 PD26/D26/TIOC4BS/DACK1 (io), 70 PD27/D27/TIOC4AS/DACK0 (io), 71 PD28/D28/TIOC3DS (io), 72 PD29/D29/TIOC3BS (io), 73 PD30/D30/TIOC3CS/~{IRQOUT} (io), 74 PD31/D31/TIOC3AS/~{ADTRG} (io), 77 PA15/CK (io), 78 PA14/~{RD} (io), 79 PA13/~{WRL}/DQMLL (io), 80 PA12/~{WRH}/DQMLU/~{POE8} (io), 81 PA11/~{WRHH}/DQMUU/~{AH} (io), 82 PA10/~{WRHL}/DQMUL (io), 83 PA9/CKE/TCLKD/RXD3 (io), 84 PA8/TCLKC/TXD3/RD~{WR} (io), 85 PA7/~{CASL}/TCLKB/SCK3 (io), 86 PA6/~{RASL}/TCLKA (io), 96 PB15/CKE/A21 (io), 97 PB16/~{CASL}/A22/DACK3 (io), 98 PB17/~{CASU}/A23/DREQ3 (io), 99 PB18/~{RASL}/A24/DACK2 (io), 100 PB19/~{RASU}/A25/DREQ2 (io), 103 USBXTAL (out), 104 USBEXTAL (in), 105 PB9/USPND (io), 106 VBUS (in), 108 USD+ (io), 109 USD- (io), 111 PB10 (io), 113 XTAL (out), 115 EXTAL (in), 116 NMI (in), 120 PE0/TIOC0A/TIOC4AS/DREQ0 (io), 121 PE1/TIOC0B/TIOC4BS/TEND0 (io), 122 PE2/TIOC0C/TIOC4CS/DREQ1 (io), 123 PE3/TIOC0D/TIOC4DS/TEND1 (io), 124 PE4/TIOC1A/RXD3 (io), 125 PE5/TIOC1B/TIOC3BS/TXD3 (io), 126 PE6/TIOC2A/TIOC3DS/SCK3 (io), 129 PB11/RXD2/~{CS6}/~{CS0}/IRQ0/~{CS2} (io), 130 PB12/TXD2/~{CS7}/~{CS1}/IRQ1/~{CS3} (io), 131 PB13/CTx0 (io), 132 PB14/CRx0 (io), 133 ~{RES} (in), 134 FWE/~{ASEBRKAK}/~{ASEBRK} (io), 135 ~{ASEMD0} (in), 138 PF0/AN0 (in), 139 PF1/AN1 (in), 140 PF2/AN2 (in), 141 PF3/AN3 (in), 142 PF4/AN4 (in), 143 PF5/AN5 (in), 144 PF6/AN6 (in), 145 PF7/AN7 (in), 146 AVREF (power), 147 AVREFVSS (in), 150 PF8/AN8 (in), 151 PF9/AN9 (in), 152 PF10/AN10 (in), 153 PF11/AN11 (in), 154 AVREF (power), 155 AVREFVSS (in), 158 DA0 (out), 159 DA1 (out), 160 MD0 (in), 161 MD1 (in), 162 ~{WDTOVF} (out), 163 PA0/RXD0/~{CS0} (io), 164 PA1/TXD0/~{CS1} (io), 165 PA2/SCK0/~{SCS}/~{CS2} (io), 166 PA3/RXD1/SSI/~{CS3} (io), 167 PA4/TXD1/SSO/~{CS4} (io), 168 PA5/SCK1/SSCK/~{CS5} (io), 169 PE7/TIOC2B/RXD2/~{BS}/~{UBCTRG} (io), 171 PE8/TIOC3A/SCK2 (io), 172 PE10/TIOC3C/TXD2 (io), 173 PE9/TIOC3B/~{FRAME} (io), 174 PE11/TIOC3D (io), 175 PE12/TIOC4A (io), 176 PE13/TIOC4B/~{MRES} (io)
part B pins: 89 TDI (in), 90 TDO (out), 91 TCK (in), 92 TMS (in), 93 ~{TRST} (in)
part C pins: 3 VCC (power), 22 VCC (power), 34 VCC (power), 44 VCC (power), 55 VCC (power), 66 VCC (power), 75 VCC (power), 87 VCC (power), 94 VCC (power), 101 VCC (power), 107 DrVCC (power), 114 VCC (power), 127 VCC (power), 137 AVCC (power), 148 AVCC (power), 156 AVCC (power)
part D pins: 4 VCL (power), 5 VSS (power), 23 VSS (power), 35 VSS (power), 45 VSS (power), 54 VCL (power), 56 VSS (power), 67 VSS (power), 76 VSS (power), 88 VSS (power), 95 VSS (power), 102 VSS (power), 110 DrVss (power), 112 VSS (power), 117 VSS (power), 118 PLLVSS (power), 119 VCL (power), 128 VSS (power), 136 AVSS (power), 149 AVSS (power), 157 AVSS (power), 170 VSS (power)

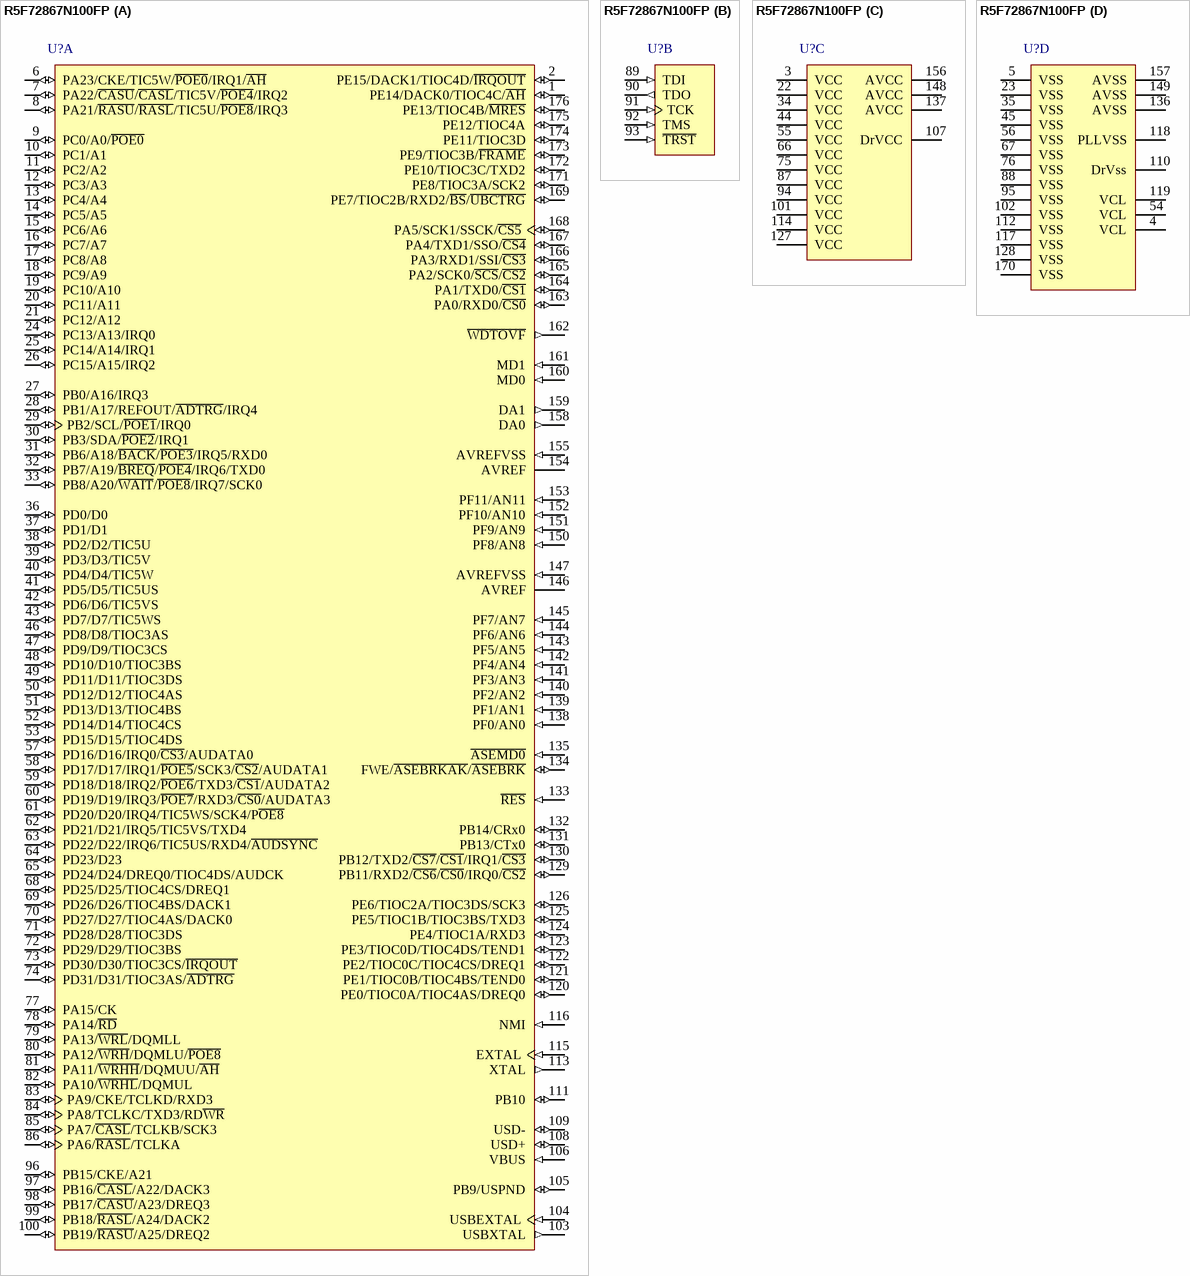
[diagram p192: symbol R5F72867N100FP]

## R5F72867N100FP
designator U?
32-Bit RISC Microcomputer, SH7280 Series, SH-2A core, 100MHz, 1M ROM, 32K RAM, 24x24mm 176-pin PLQFP, -20 to 85°C; Published: 28-Aug-2009; DatasheetVersion: Rev.1.00, Jun-2008; PackageVersion: Oct-2005; PackageReference: PLQP0176KB-A; Publisher: Altium Limited; PackageDescription: 176-Pin Plastic Low Profile QFP, 24 x 24 x 1.4 mm Body, 0.5 mm Pitch; Code_JEITA: P-LQFP176-24x24-0.50; ComponentLink1Description: Manufacturer Link; ComponentLink1URL: http://www.renesas.com/fmwk.jsp?cnt=sh7286_root.jsp&fp=/products/mpumcu/superh_family/sh7280_series/sh7286_group/; ComponentLink2Description: Datasheet; ComponentLink2URL: http://documentation.renesas.com/eng/products/mpumcu/rej09b0393_sh7280hm.pdf; ComponentLink3Description: Packaging Specification; ComponentLink3URL: http://sg.renesas.com/media/products/common_info/package/pdf/ic/code/plqp0176kb_a.pdf
footprint PLQP0176KB-A_N (Shrink QFP, 176-Leads, Body 24x24mm, Pitch 0.5mm, IPC Medium Density)
footprint PLQP0176KB-A_L (Shrink QFP, 176-Leads, Body 24x24mm, Pitch 0.5mm, IPC High Density)
footprint PLQP0176KB-A_M (Shrink QFP, 176-Leads, Body 24x24mm, Pitch 0.5mm, IPC Low Density)
part A pins: 1 PE14/DACK0/TIOC4C/~{AH} (io), 2 PE15/DACK1/TIOC4D/~{IRQOUT} (io), 6 PA23/CKE/TIC5W/~{POE0}/IRQ1/~{AH} (io), 7 PA22/~{CASU}/~{CASL}/TIC5V/~{POE4}/IRQ2 (io), 8 PA21/~{RASU}/~{RASL}/TIC5U/~{POE8}/IRQ3 (io), 9 PC0/A0/~{POE0} (io), 10 PC1/A1 (io), 11 PC2/A2 (io), 12 PC3/A3 (io), 13 PC4/A4 (io), 14 PC5/A5 (io), 15 PC6/A6 (io), 16 PC7/A7 (io), 17 PC8/A8 (io), 18 PC9/A9 (io), 19 PC10/A10 (io), 20 PC11/A11 (io), 21 PC12/A12 (io), 24 PC13/A13/IRQ0 (io), 25 PC14/A14/IRQ1 (io), 26 PC15/A15/IRQ2 (io), 27 PB0/A16/IRQ3 (io), 28 PB1/A17/REFOUT/~{ADTRG}/IRQ4 (io), 29 PB2/SCL/~{POE1}/IRQ0 (io), 30 PB3/SDA/~{POE2}/IRQ1 (io), 31 PB6/A18/~{BACK}/~{POE3}/IRQ5/RXD0 (io), 32 PB7/A19/~{BREQ}/~{POE4}/IRQ6/TXD0 (io), 33 PB8/A20/~{WAIT}/~{POE8}/IRQ7/SCK0 (io), 36 PD0/D0 (io), 37 PD1/D1 (io), 38 PD2/D2/TIC5U (io), 39 PD3/D3/TIC5V (io), 40 PD4/D4/TIC5W (io), 41 PD5/D5/TIC5US (io), 42 PD6/D6/TIC5VS (io), 43 PD7/D7/TIC5WS (io), 46 PD8/D8/TIOC3AS (io), 47 PD9/D9/TIOC3CS (io), 48 PD10/D10/TIOC3BS (io), 49 PD11/D11/TIOC3DS (io), 50 PD12/D12/TIOC4AS (io), 51 PD13/D13/TIOC4BS (io), 52 PD14/D14/TIOC4CS (io), 53 PD15/D15/TIOC4DS (io), 57 PD16/D16/IRQ0/~{CS3}/AUDATA0 (io), 58 PD17/D17/IRQ1/~{POE5}/SCK3/~{CS2}/AUDATA1 (io), 59 PD18/D18/IRQ2/~{POE6}/TXD3/~{CS1}/AUDATA2 (io), 60 PD19/D19/IRQ3/~{POE7}/RXD3/~{CS0}/AUDATA3 (io), 61 PD20/D20/IRQ4/TIC5WS/SCK4/P~{OE8} (io), 62 PD21/D21/IRQ5/TIC5VS/TXD4 (io), 63 PD22/D22/IRQ6/TIC5US/RXD4/~{AUDSYNC} (io), 64 PD23/D23 (io), 65 PD24/D24/DREQ0/TIOC4DS/AUDCK (io), 68 PD25/D25/TIOC4CS/DREQ1 (io), 69 PD26/D26/TIOC4BS/DACK1 (io), 70 PD27/D27/TIOC4AS/DACK0 (io), 71 PD28/D28/TIOC3DS (io), 72 PD29/D29/TIOC3BS (io), 73 PD30/D30/TIOC3CS/~{IRQOUT} (io), 74 PD31/D31/TIOC3AS/~{ADTRG} (io), 77 PA15/CK (io), 78 PA14/~{RD} (io), 79 PA13/~{WRL}/DQMLL (io), 80 PA12/~{WRH}/DQMLU/~{POE8} (io), 81 PA11/~{WRHH}/DQMUU/~{AH} (io), 82 PA10/~{WRHL}/DQMUL (io), 83 PA9/CKE/TCLKD/RXD3 (io), 84 PA8/TCLKC/TXD3/RD~{WR} (io), 85 PA7/~{CASL}/TCLKB/SCK3 (io), 86 PA6/~{RASL}/TCLKA (io), 96 PB15/CKE/A21 (io), 97 PB16/~{CASL}/A22/DACK3 (io), 98 PB17/~{CASU}/A23/DREQ3 (io), 99 PB18/~{RASL}/A24/DACK2 (io), 100 PB19/~{RASU}/A25/DREQ2 (io), 103 USBXTAL (out), 104 USBEXTAL (in), 105 PB9/USPND (io), 106 VBUS (in), 108 USD+ (io), 109 USD- (io), 111 PB10 (io), 113 XTAL (out), 115 EXTAL (in), 116 NMI (in), 120 PE0/TIOC0A/TIOC4AS/DREQ0 (io), 121 PE1/TIOC0B/TIOC4BS/TEND0 (io), 122 PE2/TIOC0C/TIOC4CS/DREQ1 (io), 123 PE3/TIOC0D/TIOC4DS/TEND1 (io), 124 PE4/TIOC1A/RXD3 (io), 125 PE5/TIOC1B/TIOC3BS/TXD3 (io), 126 PE6/TIOC2A/TIOC3DS/SCK3 (io), 129 PB11/RXD2/~{CS6}/~{CS0}/IRQ0/~{CS2} (io), 130 PB12/TXD2/~{CS7}/~{CS1}/IRQ1/~{CS3} (io), 131 PB13/CTx0 (io), 132 PB14/CRx0 (io), 133 ~{RES} (in), 134 FWE/~{ASEBRKAK}/~{ASEBRK} (io), 135 ~{ASEMD0} (in), 138 PF0/AN0 (in), 139 PF1/AN1 (in), 140 PF2/AN2 (in), 141 PF3/AN3 (in), 142 PF4/AN4 (in), 143 PF5/AN5 (in), 144 PF6/AN6 (in), 145 PF7/AN7 (in), 146 AVREF (power), 147 AVREFVSS (in), 150 PF8/AN8 (in), 151 PF9/AN9 (in), 152 PF10/AN10 (in), 153 PF11/AN11 (in), 154 AVREF (power), 155 AVREFVSS (in), 158 DA0 (out), 159 DA1 (out), 160 MD0 (in), 161 MD1 (in), 162 ~{WDTOVF} (out), 163 PA0/RXD0/~{CS0} (io), 164 PA1/TXD0/~{CS1} (io), 165 PA2/SCK0/~{SCS}/~{CS2} (io), 166 PA3/RXD1/SSI/~{CS3} (io), 167 PA4/TXD1/SSO/~{CS4} (io), 168 PA5/SCK1/SSCK/~{CS5} (io), 169 PE7/TIOC2B/RXD2/~{BS}/~{UBCTRG} (io), 171 PE8/TIOC3A/SCK2 (io), 172 PE10/TIOC3C/TXD2 (io), 173 PE9/TIOC3B/~{FRAME} (io), 174 PE11/TIOC3D (io), 175 PE12/TIOC4A (io), 176 PE13/TIOC4B/~{MRES} (io)
part B pins: 89 TDI (in), 90 TDO (out), 91 TCK (in), 92 TMS (in), 93 ~{TRST} (in)
part C pins: 3 VCC (power), 22 VCC (power), 34 VCC (power), 44 VCC (power), 55 VCC (power), 66 VCC (power), 75 VCC (power), 87 VCC (power), 94 VCC (power), 101 VCC (power), 107 DrVCC (power), 114 VCC (power), 127 VCC (power), 137 AVCC (power), 148 AVCC (power), 156 AVCC (power)
part D pins: 4 VCL (power), 5 VSS (power), 23 VSS (power), 35 VSS (power), 45 VSS (power), 54 VCL (power), 56 VSS (power), 67 VSS (power), 76 VSS (power), 88 VSS (power), 95 VSS (power), 102 VSS (power), 110 DrVss (power), 112 VSS (power), 117 VSS (power), 118 PLLVSS (power), 119 VCL (power), 128 VSS (power), 136 AVSS (power), 149 AVSS (power), 157 AVSS (power), 170 VSS (power)

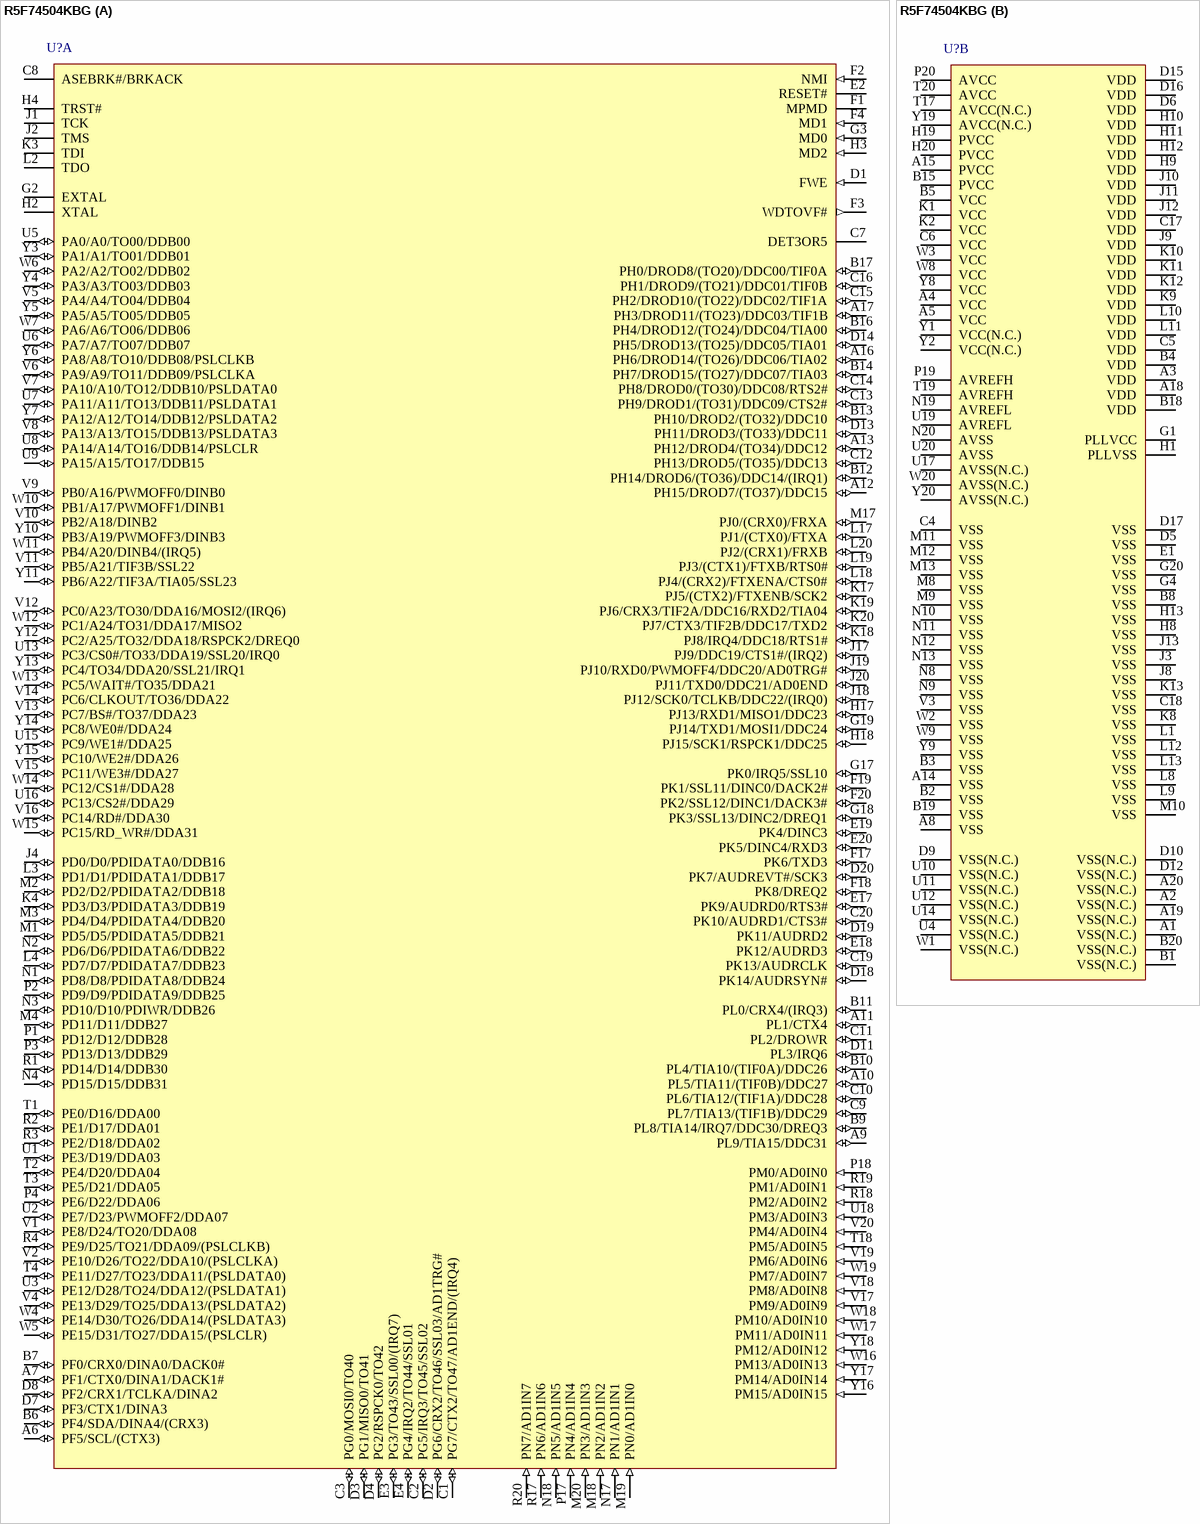
[diagram p193: symbol R5F74504KBG]

## R5F74504KBG
designator U?
32-bit RISC Microcomputer, SH7450 Series, SH-4A core, 240MHz, 2M ROM, 8K + 16K(high-speed) + 512K(medium-speed) RAM, 292-Pin BGA; Published: 17-Feb-2010; DatasheetVersion: Rev.1.00, Jan-2010; PackageVersion: May-2009; PackageReference: PRBG0292GB-A; Publisher: Altium Limited; PackageDescription: 292-Ball Plastic Fine Pitch Ball Grid Array, 17 x 17 mm Body, 0.8 mm Pitch; Code_JEITA: P-FBGA292-17x17-0.80; ComponentLink1Description: Manufacturer Link; ComponentLink1URL: http://sg.renesas.com/fmwk.jsp?cnt=sh7450_root.jsp&fp=/products/mpumcu/superh_family/sh7450_series/sh7450_group; ComponentLink2Description: Datasheet; ComponentLink2URL: http://documentation.renesas.com/eng/products/mpumcu/rej09b0454_sh7450_7451hm.pdf; ComponentLink3Description: Packaging Specification; ComponentLink3URL: http://sg.renesas.com/media/products/common_info/package/pdf/ic/code/prbg0292gb_a.pdf
footprint PRBG0292GB-A (BGA, 292-Leads, Body 17x17mm, Pitch 0.8mm)
part A pins: A6 PF5/SCL/(CTX3) (io), A7 PF1/CTX0/DINA1/DACK1# (io), A9 PL9/TIA15/DDC31 (io), A10 PL5/TIA11/(TIF0B)/DDC27 (io), A11 PL1/CTX4 (io), A12 PH15/DROD7/(TO37)/DDC15 (io), A13 PH12/DROD4/(TO34)/DDC12 (io), A16 PH6/DROD14/(TO26)/DDC06/TIA02 (io), A17 PH3/DROD11/(TO23)/DDC03/TIF1B (io), B6 PF4/SDA/DINA4/(CRX3) (io), B7 PF0/CRX0/DINA0/DACK0# (io), B9 PL8/TIA14/IRQ7/DDC30/DREQ3 (io), B10 PL4/TIA10/(TIF0A)/DDC26 (io), B11 PL0/CRX4/(IRQ3) (io), B12 PH14/DROD6/(TO36)/DDC14/(IRQ1) (io), B13 PH10/DROD2/(TO32)/DDC10 (io), B14 PH7/DROD15/(TO27)/DDC07/TIA03 (io), B16 PH4/DROD12/(TO24)/DDC04/TIA00 (io), B17 PH0/DROD8/(TO20)/DDC00/TIF0A (io), C1 PG7/CTX2/TO47/AD1END/(IRQ4) (io), C2 PG5/IRQ3/TO45/SSL02 (io), C3 PG0/MOSI0/TO40 (io), C7 DET3OR5 (hiz), C8 ASEBRK#/BRKACK, C9 PL7/TIA13/(TIF1B)/DDC29 (io), C10 PL6/TIA12/(TIF1A)/DDC28 (io), C11 PL2/DROWR (io), C12 PH13/DROD5/(TO35)/DDC13 (io), C13 PH9/DROD1/(TO31)/DDC09/CTS2# (io), C14 PH8/DROD0/(TO30)/DDC08/RTS2# (io), C15 PH2/DROD10/(TO22)/DDC02/TIF1A (io), C16 PH1/DROD9/(TO21)/DDC01/TIF0B (io), C19 PK13/AUDRCLK (io), C20 PK10/AUDRD1/CTS3# (io), D1 FWE (in), D2 PG6/CRX2/TO46/SSL03/AD1TRG# (io), D3 PG1/MISO0/TO41 (io), D4 PG2/RSPCK0/TO42 (io), D7 PF3/CTX1/DINA3 (io), D8 PF2/CRX1/TCLKA/DINA2 (io), D11 PL3/IRQ6 (io), D13 PH11/DROD3/(TO33)/DDC11 (io), D14 PH5/DROD13/(TO25)/DDC05/TIA01 (io), D18 PK14/AUDRSYN# (io), D19 PK11/AUDRD2 (io), D20 PK7/AUDREVT#/SCK3 (io), E2 RESET#, E3 PG3/TO43/SSL00/(IRQ7) (io), E4 PG4/IRQ2/TO44/SSL01 (io), E17 PK9/AUDRD0/RTS3# (io), E18 PK12/AUDRD3 (io), E19 PK4/DINC3 (io), E20 PK5/DINC4/RXD3 (io), F1 MPMD, F2 NMI (in), F3 WDTOVF# (out), F4 MD1 (in), F17 PK6/TXD3 (io), F18 PK8/DREQ2 (io), F19 PK1/SSL11/DINC0/DACK2# (io), F20 PK2/SSL12/DINC1/DACK3# (io), G2 EXTAL, G3 MD0 (in), G17 PK0/IRQ5/SSL10 (io), G18 PK3/SSL13/DINC2/DREQ1 (io), G19 PJ14/TXD1/MOSI1/DDC24 (io), H2 XTAL, H3 MD2 (in), H4 TRST#, H17 PJ13/RXD1/MISO1/DDC23 (io), H18 PJ15/SCK1/RSPCK1/DDC25 (io), J1 TCK, J2 TMS, J4 PD0/D0/PDIDATA0/DDB16 (io), J17 PJ9/DDC19/CTS1#/(IRQ2) (io), J18 PJ12/SCK0/TCLKB/DDC22/(IRQ0) (io), J19 PJ10/RXD0/PWMOFF4/DDC20/AD0TRG# (io), J20 PJ11/TXD0/DDC21/AD0END (io), K3 TDI, K4 PD3/D3/PDIDATA3/DDB19 (io), K17 PJ5/(CTX2)/FTXENB/SCK2 (io), K18 PJ8/IRQ4/DDC18/RTS1# (io), K19 PJ6/CRX3/TIF2A/DDC16/RXD2/TIA04 (io), K20 PJ7/CTX3/TIF2B/DDC17/TXD2 (io), L2 TDO, L3 PD1/D1/PDIDATA1/DDB17 (io), L4 PD7/D7/PDIDATA7/DDB23 (io), L17 PJ1/(CTX0)/FTXA (io), L18 PJ4/(CRX2)/FTXENA/CTS0# (io), L19 PJ3/(CTX1)/FTXB/RTS0# (io), L20 PJ2/(CRX1)/FRXB (io), M1 PD5/D5/PDIDATA5/DDB21 (io), M2 PD2/D2/PDIDATA2/DDB18 (io), M3 PD4/D4/PDIDATA4/DDB20 (io), M4 PD11/D11/DDB27 (io), M17 PJ0/(CRX0)/FRXA (io), M18 PN2/AD1IN2 (in), M19 PN0/AD1IN0 (in), M20 PN3/AD1IN3 (in), N1 PD8/D8/PDIDATA8/DDB24 (io), N2 PD6/D6/PDIDATA6/DDB22 (io), N3 PD10/D10/PDIWR/DDB26 (io), N4 PD15/D15/DDB31 (io), N17 PN1/AD1IN1 (in), N18 PN5/AD1IN5 (in), P1 PD12/D12/DDB28 (io), P2 PD9/D9/PDIDATA9/DDB25 (io), P3 PD13/D13/DDB29 (io), P4 PE6/D22/DDA06 (io), P17 PN4/AD1IN4 (in), P18 PM0/AD0IN0 (in), R1 PD14/D14/DDB30 (io), R2 PE1/D17/DDA01 (io), R3 PE2/D18/DDA02 (io), R4 PE9/D25/TO21/DDA09/(PSLCLKB) (io), R17 PN6/AD1IN6 (in), R18 PM2/AD0IN2 (in), R19 PM1/AD0IN1 (in), R20 PN7/AD1IN7 (in), T1 PE0/D16/DDA00 (io), T2 PE4/D20/DDA04 (io), T3 PE5/D21/DDA05 (io), T4 PE11/D27/TO23/DDA11/(PSLDATA0) (io), T18 PM5/AD0IN5 (in), U1 PE3/D19/DDA03 (io), U2 PE7/D23/PWMOFF2/DDA07 (io), U3 PE12/D28/TO24/DDA12/(PSLDATA1) (io), U5 PA0/A0/TO00/DDB00 (io), U6 PA7/A7/TO07/DDB07 (io), U7 PA11/A11/TO13/DDB11/PSLDATA1 (io), U8 PA14/A14/TO16/DDB14/PSLCLR (io), U9 PA15/A15/TO17/DDB15 (io), U13 PC3/CS0#/TO33/DDA19/SSL20/IRQ0 (io), U15 PC9/WE1#/DDA25 (io), U16 PC13/CS2#/DDA29 (io), U18 PM3/AD0IN3 (in), V1 PE8/D24/TO20/DDA08 (io), V2 PE10/D26/TO22/DDA10/(PSLCLKA) (io), V4 PE13/D29/TO25/DDA13/(PSLDATA2) (io), V5 PA4/A4/TO04/DDB04 (io), V6 PA9/A9/TO11/DDB09/PSLCLKA (io), V7 PA10/A10/TO12/DDB10/PSLDATA0 (io), V8 PA13/A13/TO15/DDB13/PSLDATA3 (io), V9 PB0/A16/PWMOFF0/DINB0 (io), V10 PB2/A18/DINB2 (io), V11 PB5/A21/TIF3B/SSL22 (io), V12 PC0/A23/TO30/DDA16/MOSI2/(IRQ6) (io), V13 PC7/BS#/TO37/DDA23 (io), V14 PC6/CLKOUT/TO36/DDA22 (io), V15 PC11/WE3#/DDA27 (io), V16 PC14/RD#/DDA30 (io), V17 PM9/AD0IN9 (in), V18 PM8/AD0IN8 (in), V19 PM6/AD0IN6 (in), V20 PM4/AD0IN4 (in), W4 PE14/D30/TO26/DDA14/(PSLDATA3) (io), W5 PE15/D31/TO27/DDA15/(PSLCLR) (io), W6 PA2/A2/TO02/DDB02 (io), W7 PA6/A6/TO06/DDB06 (io), W10 PB1/A17/PWMOFF1/DINB1 (io), W11 PB4/A20/DINB4/(IRQ5) (io), W12 PC1/A24/TO31/DDA17/MISO2 (io), W13 PC5/WAIT#/TO35/DDA21 (io), W14 PC12/CS1#/DDA28 (io), W15 PC15/RD_WR#/DDA31 (io), W16 PM13/AD0IN13 (in), W17 PM11/AD0IN11 (in), W18 PM10/AD0IN10 (in), W19 PM7/AD0IN7 (in), Y3 PA1/A1/TO01/DDB01 (io), Y4 PA3/A3/TO03/DDB03 (io), Y5 PA5/A5/TO05/DDB05 (io), Y6 PA8/A8/TO10/DDB08/PSLCLKB (io), Y7 PA12/A12/TO14/DDB12/PSLDATA2 (io), Y10 PB3/A19/PWMOFF3/DINB3 (io), Y11 PB6/A22/TIF3A/TIA05/SSL23 (io), Y12 PC2/A25/TO32/DDA18/RSPCK2/DREQ0 (io), Y13 PC4/TO34/DDA20/SSL21/IRQ1 (io), Y14 PC8/WE0#/DDA24 (io), Y15 PC10/WE2#/DDA26 (io), Y16 PM15/AD0IN15 (in), Y17 PM14/AD0IN14 (in), Y18 PM12/AD0IN12 (in)
part B pins: A1 VSS(N.C.) (power), A2 VSS(N.C.) (power), A3 VDD (power), A4 VCC (power), A5 VCC (power), A8 VSS (power), A14 VSS (power), A15 PVCC, A18 VDD (power), A19 VSS(N.C.) (power), A20 VSS(N.C.) (power), B1 VSS(N.C.) (power), B2 VSS (power), B3 VSS (power), B4 VDD (power), B5 VCC (power), B8 VSS (power), B15 PVCC, B18 VDD (power), B19 VSS (power), B20 VSS(N.C.) (power), C4 VSS (power), C5 VDD (power), C6 VCC (power), C17 VDD (power), C18 VSS (power), D5 VSS (power), D6 VDD (power), D9 VSS(N.C.) (power), D10 VSS(N.C.) (power), D12 VSS(N.C.) (power), D15 VDD (power), D16 VDD (power), D17 VSS (power), E1 VSS (power), G1 PLLVCC (power), G4 VSS (power), G20 VSS (power), H1 PLLVSS (power), H8 VSS (power), H9 VDD (power), H10 VDD (power), H11 VDD (power), H12 VDD (power), H13 VSS (power), H19 PVCC, H20 PVCC, J3 VSS (power), J8 VSS (power), J9 VDD (power), J10 VDD (power), J11 VDD (power), J12 VDD (power), J13 VSS (power), K1 VCC (power), K2 VCC (power), K8 VSS (power), K9 VDD (power), K10 VDD (power), K11 VDD (power), K12 VDD (power), K13 VSS (power), L1 VSS (power), L8 VSS (power), L9 VSS (power), L10 VDD (power), L11 VDD (power), L12 VSS (power), L13 VSS (power), M8 VSS (power), M9 VSS (power), M10 VSS (power), M11 VSS (power), M12 VSS (power), M13 VSS (power), N8 VSS (power), N9 VSS (power), N10 VSS (power), N11 VSS (power), N12 VSS (power), N13 VSS (power), N19 AVREFL (power), N20 AVSS (power), P19 AVREFH (power), P20 AVCC (power), T17 AVCC(N.C.) (power), T19 AVREFH (power), T20 AVCC (power), U4 VSS(N.C.) (power), U10 VSS(N.C.) (power), U11 VSS(N.C.) (power), U12 VSS(N.C.) (power), U14 VSS(N.C.) (power), U17 AVSS(N.C.) (power), U19 AVREFL (power), U20 AVSS (power), V3 VSS (power), W1 VSS(N.C.) (power), W2 VSS (power), W3 VCC (power), W8 VCC (power), W9 VSS (power), W20 AVSS(N.C.) (power), Y1 VCC(N.C.) (power), Y2 VCC(N.C.) (power), Y8 VCC (power), Y9 VSS, Y19 AVCC(N.C.) (power), Y20 AVSS(N.C.) (power)

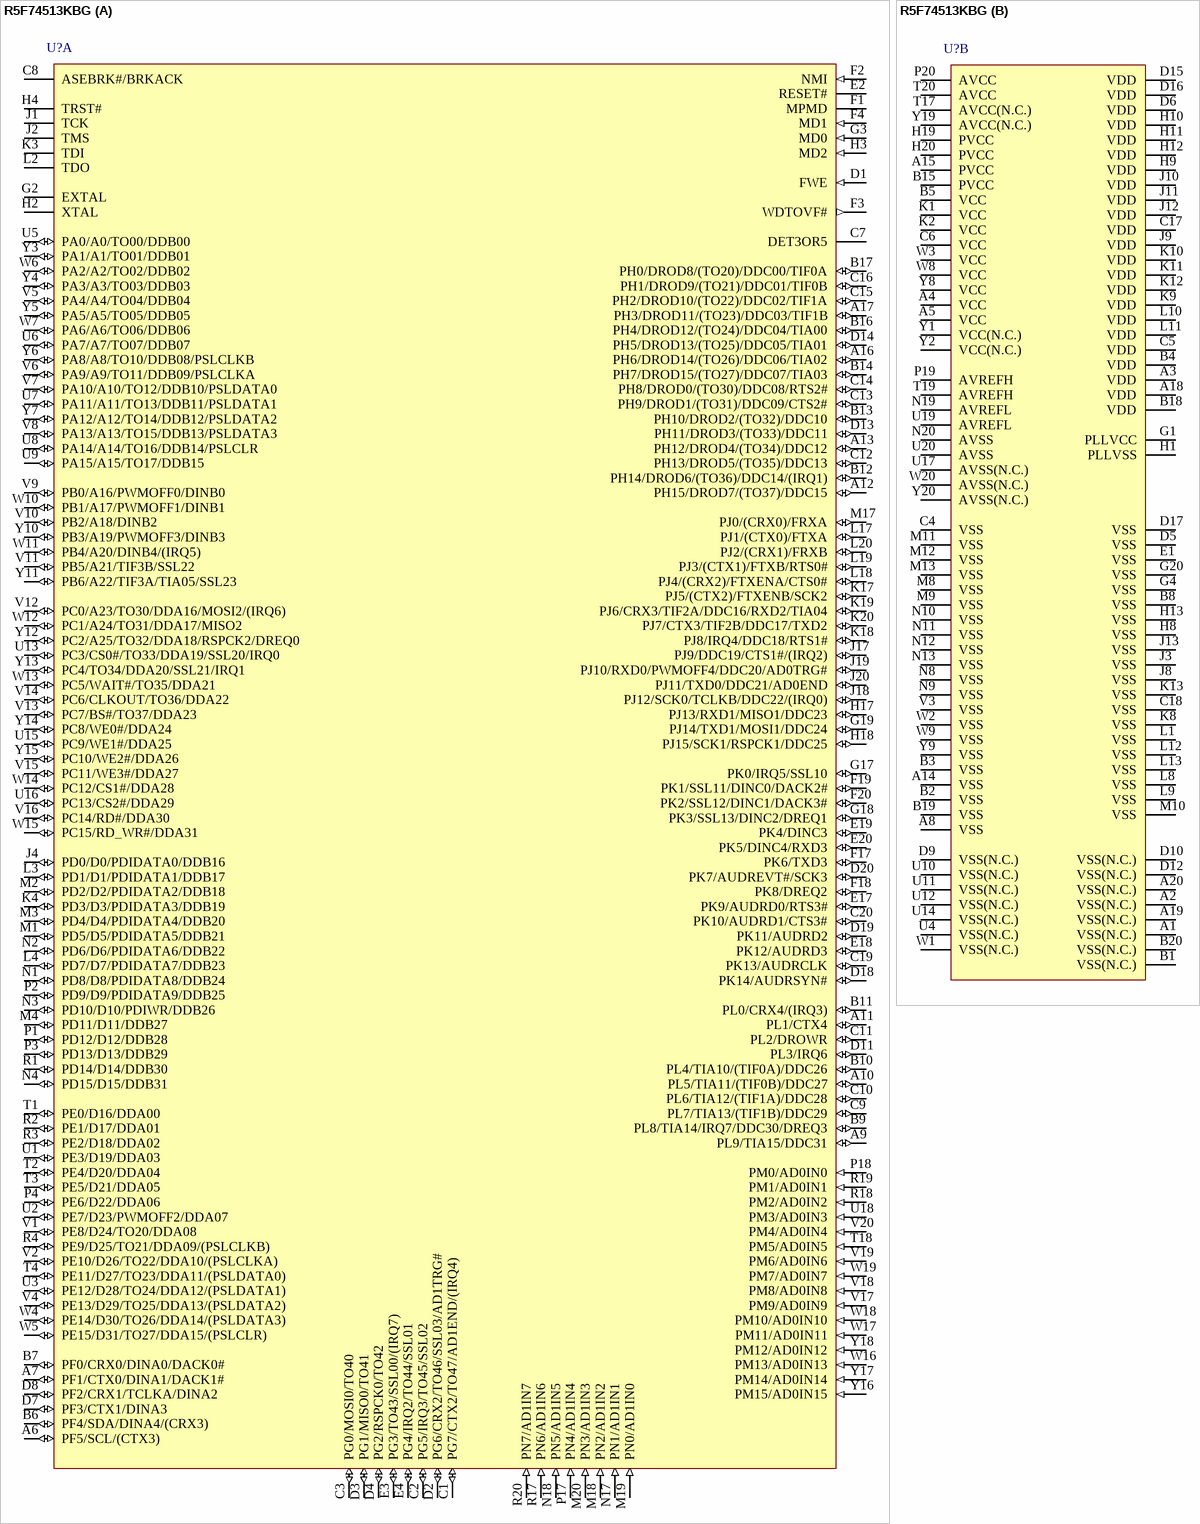
[diagram p194: symbol R5F74513KBG]

## R5F74513KBG
designator U?
32-bit RISC Microcomputer, SH7450 Series, SH-4A core, 240MHz, 1.5M ROM, 8K + 16K(high-speed) + 512K(medium-speed) RAM, 292-Pin BGA; Published: 17-Feb-2010; DatasheetVersion: Rev.1.00, Jan-2010; PackageVersion: May-2009; PackageReference: PRBG0292GB-A; Publisher: Altium Limited; PackageDescription: 292-Ball Plastic Fine Pitch Ball Grid Array, 17 x 17 mm Body, 0.8 mm Pitch; Code_JEITA: P-FBGA292-17x17-0.80; ComponentLink1Description: Manufacturer Link; ComponentLink1URL: http://sg.renesas.com/fmwk.jsp?cnt=sh7450_root.jsp&fp=/products/mpumcu/superh_family/sh7450_series/sh7450_group; ComponentLink2Description: Datasheet; ComponentLink2URL: http://documentation.renesas.com/eng/products/mpumcu/rej09b0454_sh7450_7451hm.pdf; ComponentLink3Description: Packaging Specification; ComponentLink3URL: http://sg.renesas.com/media/products/common_info/package/pdf/ic/code/prbg0292gb_a.pdf
footprint PRBG0292GB-A (BGA, 292-Leads, Body 17x17mm, Pitch 0.8mm)
part A pins: A6 PF5/SCL/(CTX3) (io), A7 PF1/CTX0/DINA1/DACK1# (io), A9 PL9/TIA15/DDC31 (io), A10 PL5/TIA11/(TIF0B)/DDC27 (io), A11 PL1/CTX4 (io), A12 PH15/DROD7/(TO37)/DDC15 (io), A13 PH12/DROD4/(TO34)/DDC12 (io), A16 PH6/DROD14/(TO26)/DDC06/TIA02 (io), A17 PH3/DROD11/(TO23)/DDC03/TIF1B (io), B6 PF4/SDA/DINA4/(CRX3) (io), B7 PF0/CRX0/DINA0/DACK0# (io), B9 PL8/TIA14/IRQ7/DDC30/DREQ3 (io), B10 PL4/TIA10/(TIF0A)/DDC26 (io), B11 PL0/CRX4/(IRQ3) (io), B12 PH14/DROD6/(TO36)/DDC14/(IRQ1) (io), B13 PH10/DROD2/(TO32)/DDC10 (io), B14 PH7/DROD15/(TO27)/DDC07/TIA03 (io), B16 PH4/DROD12/(TO24)/DDC04/TIA00 (io), B17 PH0/DROD8/(TO20)/DDC00/TIF0A (io), C1 PG7/CTX2/TO47/AD1END/(IRQ4) (io), C2 PG5/IRQ3/TO45/SSL02 (io), C3 PG0/MOSI0/TO40 (io), C7 DET3OR5 (hiz), C8 ASEBRK#/BRKACK, C9 PL7/TIA13/(TIF1B)/DDC29 (io), C10 PL6/TIA12/(TIF1A)/DDC28 (io), C11 PL2/DROWR (io), C12 PH13/DROD5/(TO35)/DDC13 (io), C13 PH9/DROD1/(TO31)/DDC09/CTS2# (io), C14 PH8/DROD0/(TO30)/DDC08/RTS2# (io), C15 PH2/DROD10/(TO22)/DDC02/TIF1A (io), C16 PH1/DROD9/(TO21)/DDC01/TIF0B (io), C19 PK13/AUDRCLK (io), C20 PK10/AUDRD1/CTS3# (io), D1 FWE (in), D2 PG6/CRX2/TO46/SSL03/AD1TRG# (io), D3 PG1/MISO0/TO41 (io), D4 PG2/RSPCK0/TO42 (io), D7 PF3/CTX1/DINA3 (io), D8 PF2/CRX1/TCLKA/DINA2 (io), D11 PL3/IRQ6 (io), D13 PH11/DROD3/(TO33)/DDC11 (io), D14 PH5/DROD13/(TO25)/DDC05/TIA01 (io), D18 PK14/AUDRSYN# (io), D19 PK11/AUDRD2 (io), D20 PK7/AUDREVT#/SCK3 (io), E2 RESET#, E3 PG3/TO43/SSL00/(IRQ7) (io), E4 PG4/IRQ2/TO44/SSL01 (io), E17 PK9/AUDRD0/RTS3# (io), E18 PK12/AUDRD3 (io), E19 PK4/DINC3 (io), E20 PK5/DINC4/RXD3 (io), F1 MPMD, F2 NMI (in), F3 WDTOVF# (out), F4 MD1 (in), F17 PK6/TXD3 (io), F18 PK8/DREQ2 (io), F19 PK1/SSL11/DINC0/DACK2# (io), F20 PK2/SSL12/DINC1/DACK3# (io), G2 EXTAL, G3 MD0 (in), G17 PK0/IRQ5/SSL10 (io), G18 PK3/SSL13/DINC2/DREQ1 (io), G19 PJ14/TXD1/MOSI1/DDC24 (io), H2 XTAL, H3 MD2 (in), H4 TRST#, H17 PJ13/RXD1/MISO1/DDC23 (io), H18 PJ15/SCK1/RSPCK1/DDC25 (io), J1 TCK, J2 TMS, J4 PD0/D0/PDIDATA0/DDB16 (io), J17 PJ9/DDC19/CTS1#/(IRQ2) (io), J18 PJ12/SCK0/TCLKB/DDC22/(IRQ0) (io), J19 PJ10/RXD0/PWMOFF4/DDC20/AD0TRG# (io), J20 PJ11/TXD0/DDC21/AD0END (io), K3 TDI, K4 PD3/D3/PDIDATA3/DDB19 (io), K17 PJ5/(CTX2)/FTXENB/SCK2 (io), K18 PJ8/IRQ4/DDC18/RTS1# (io), K19 PJ6/CRX3/TIF2A/DDC16/RXD2/TIA04 (io), K20 PJ7/CTX3/TIF2B/DDC17/TXD2 (io), L2 TDO, L3 PD1/D1/PDIDATA1/DDB17 (io), L4 PD7/D7/PDIDATA7/DDB23 (io), L17 PJ1/(CTX0)/FTXA (io), L18 PJ4/(CRX2)/FTXENA/CTS0# (io), L19 PJ3/(CTX1)/FTXB/RTS0# (io), L20 PJ2/(CRX1)/FRXB (io), M1 PD5/D5/PDIDATA5/DDB21 (io), M2 PD2/D2/PDIDATA2/DDB18 (io), M3 PD4/D4/PDIDATA4/DDB20 (io), M4 PD11/D11/DDB27 (io), M17 PJ0/(CRX0)/FRXA (io), M18 PN2/AD1IN2 (in), M19 PN0/AD1IN0 (in), M20 PN3/AD1IN3 (in), N1 PD8/D8/PDIDATA8/DDB24 (io), N2 PD6/D6/PDIDATA6/DDB22 (io), N3 PD10/D10/PDIWR/DDB26 (io), N4 PD15/D15/DDB31 (io), N17 PN1/AD1IN1 (in), N18 PN5/AD1IN5 (in), P1 PD12/D12/DDB28 (io), P2 PD9/D9/PDIDATA9/DDB25 (io), P3 PD13/D13/DDB29 (io), P4 PE6/D22/DDA06 (io), P17 PN4/AD1IN4 (in), P18 PM0/AD0IN0 (in), R1 PD14/D14/DDB30 (io), R2 PE1/D17/DDA01 (io), R3 PE2/D18/DDA02 (io), R4 PE9/D25/TO21/DDA09/(PSLCLKB) (io), R17 PN6/AD1IN6 (in), R18 PM2/AD0IN2 (in), R19 PM1/AD0IN1 (in), R20 PN7/AD1IN7 (in), T1 PE0/D16/DDA00 (io), T2 PE4/D20/DDA04 (io), T3 PE5/D21/DDA05 (io), T4 PE11/D27/TO23/DDA11/(PSLDATA0) (io), T18 PM5/AD0IN5 (in), U1 PE3/D19/DDA03 (io), U2 PE7/D23/PWMOFF2/DDA07 (io), U3 PE12/D28/TO24/DDA12/(PSLDATA1) (io), U5 PA0/A0/TO00/DDB00 (io), U6 PA7/A7/TO07/DDB07 (io), U7 PA11/A11/TO13/DDB11/PSLDATA1 (io), U8 PA14/A14/TO16/DDB14/PSLCLR (io), U9 PA15/A15/TO17/DDB15 (io), U13 PC3/CS0#/TO33/DDA19/SSL20/IRQ0 (io), U15 PC9/WE1#/DDA25 (io), U16 PC13/CS2#/DDA29 (io), U18 PM3/AD0IN3 (in), V1 PE8/D24/TO20/DDA08 (io), V2 PE10/D26/TO22/DDA10/(PSLCLKA) (io), V4 PE13/D29/TO25/DDA13/(PSLDATA2) (io), V5 PA4/A4/TO04/DDB04 (io), V6 PA9/A9/TO11/DDB09/PSLCLKA (io), V7 PA10/A10/TO12/DDB10/PSLDATA0 (io), V8 PA13/A13/TO15/DDB13/PSLDATA3 (io), V9 PB0/A16/PWMOFF0/DINB0 (io), V10 PB2/A18/DINB2 (io), V11 PB5/A21/TIF3B/SSL22 (io), V12 PC0/A23/TO30/DDA16/MOSI2/(IRQ6) (io), V13 PC7/BS#/TO37/DDA23 (io), V14 PC6/CLKOUT/TO36/DDA22 (io), V15 PC11/WE3#/DDA27 (io), V16 PC14/RD#/DDA30 (io), V17 PM9/AD0IN9 (in), V18 PM8/AD0IN8 (in), V19 PM6/AD0IN6 (in), V20 PM4/AD0IN4 (in), W4 PE14/D30/TO26/DDA14/(PSLDATA3) (io), W5 PE15/D31/TO27/DDA15/(PSLCLR) (io), W6 PA2/A2/TO02/DDB02 (io), W7 PA6/A6/TO06/DDB06 (io), W10 PB1/A17/PWMOFF1/DINB1 (io), W11 PB4/A20/DINB4/(IRQ5) (io), W12 PC1/A24/TO31/DDA17/MISO2 (io), W13 PC5/WAIT#/TO35/DDA21 (io), W14 PC12/CS1#/DDA28 (io), W15 PC15/RD_WR#/DDA31 (io), W16 PM13/AD0IN13 (in), W17 PM11/AD0IN11 (in), W18 PM10/AD0IN10 (in), W19 PM7/AD0IN7 (in), Y3 PA1/A1/TO01/DDB01 (io), Y4 PA3/A3/TO03/DDB03 (io), Y5 PA5/A5/TO05/DDB05 (io), Y6 PA8/A8/TO10/DDB08/PSLCLKB (io), Y7 PA12/A12/TO14/DDB12/PSLDATA2 (io), Y10 PB3/A19/PWMOFF3/DINB3 (io), Y11 PB6/A22/TIF3A/TIA05/SSL23 (io), Y12 PC2/A25/TO32/DDA18/RSPCK2/DREQ0 (io), Y13 PC4/TO34/DDA20/SSL21/IRQ1 (io), Y14 PC8/WE0#/DDA24 (io), Y15 PC10/WE2#/DDA26 (io), Y16 PM15/AD0IN15 (in), Y17 PM14/AD0IN14 (in), Y18 PM12/AD0IN12 (in)
part B pins: A1 VSS(N.C.) (power), A2 VSS(N.C.) (power), A3 VDD (power), A4 VCC (power), A5 VCC (power), A8 VSS (power), A14 VSS (power), A15 PVCC, A18 VDD (power), A19 VSS(N.C.) (power), A20 VSS(N.C.) (power), B1 VSS(N.C.) (power), B2 VSS (power), B3 VSS (power), B4 VDD (power), B5 VCC (power), B8 VSS (power), B15 PVCC, B18 VDD (power), B19 VSS (power), B20 VSS(N.C.) (power), C4 VSS (power), C5 VDD (power), C6 VCC (power), C17 VDD (power), C18 VSS (power), D5 VSS (power), D6 VDD (power), D9 VSS(N.C.) (power), D10 VSS(N.C.) (power), D12 VSS(N.C.) (power), D15 VDD (power), D16 VDD (power), D17 VSS (power), E1 VSS (power), G1 PLLVCC (power), G4 VSS (power), G20 VSS (power), H1 PLLVSS (power), H8 VSS (power), H9 VDD (power), H10 VDD (power), H11 VDD (power), H12 VDD (power), H13 VSS (power), H19 PVCC, H20 PVCC, J3 VSS (power), J8 VSS (power), J9 VDD (power), J10 VDD (power), J11 VDD (power), J12 VDD (power), J13 VSS (power), K1 VCC (power), K2 VCC (power), K8 VSS (power), K9 VDD (power), K10 VDD (power), K11 VDD (power), K12 VDD (power), K13 VSS (power), L1 VSS (power), L8 VSS (power), L9 VSS (power), L10 VDD (power), L11 VDD (power), L12 VSS (power), L13 VSS (power), M8 VSS (power), M9 VSS (power), M10 VSS (power), M11 VSS (power), M12 VSS (power), M13 VSS (power), N8 VSS (power), N9 VSS (power), N10 VSS (power), N11 VSS (power), N12 VSS (power), N13 VSS (power), N19 AVREFL (power), N20 AVSS (power), P19 AVREFH (power), P20 AVCC (power), T17 AVCC(N.C.) (power), T19 AVREFH (power), T20 AVCC (power), U4 VSS(N.C.) (power), U10 VSS(N.C.) (power), U11 VSS(N.C.) (power), U12 VSS(N.C.) (power), U14 VSS(N.C.) (power), U17 AVSS(N.C.) (power), U19 AVREFL (power), U20 AVSS (power), V3 VSS (power), W1 VSS(N.C.) (power), W2 VSS (power), W3 VCC (power), W8 VCC (power), W9 VSS (power), W20 AVSS(N.C.) (power), Y1 VCC(N.C.) (power), Y2 VCC(N.C.) (power), Y8 VCC (power), Y9 VSS, Y19 AVCC(N.C.) (power), Y20 AVSS(N.C.) (power)

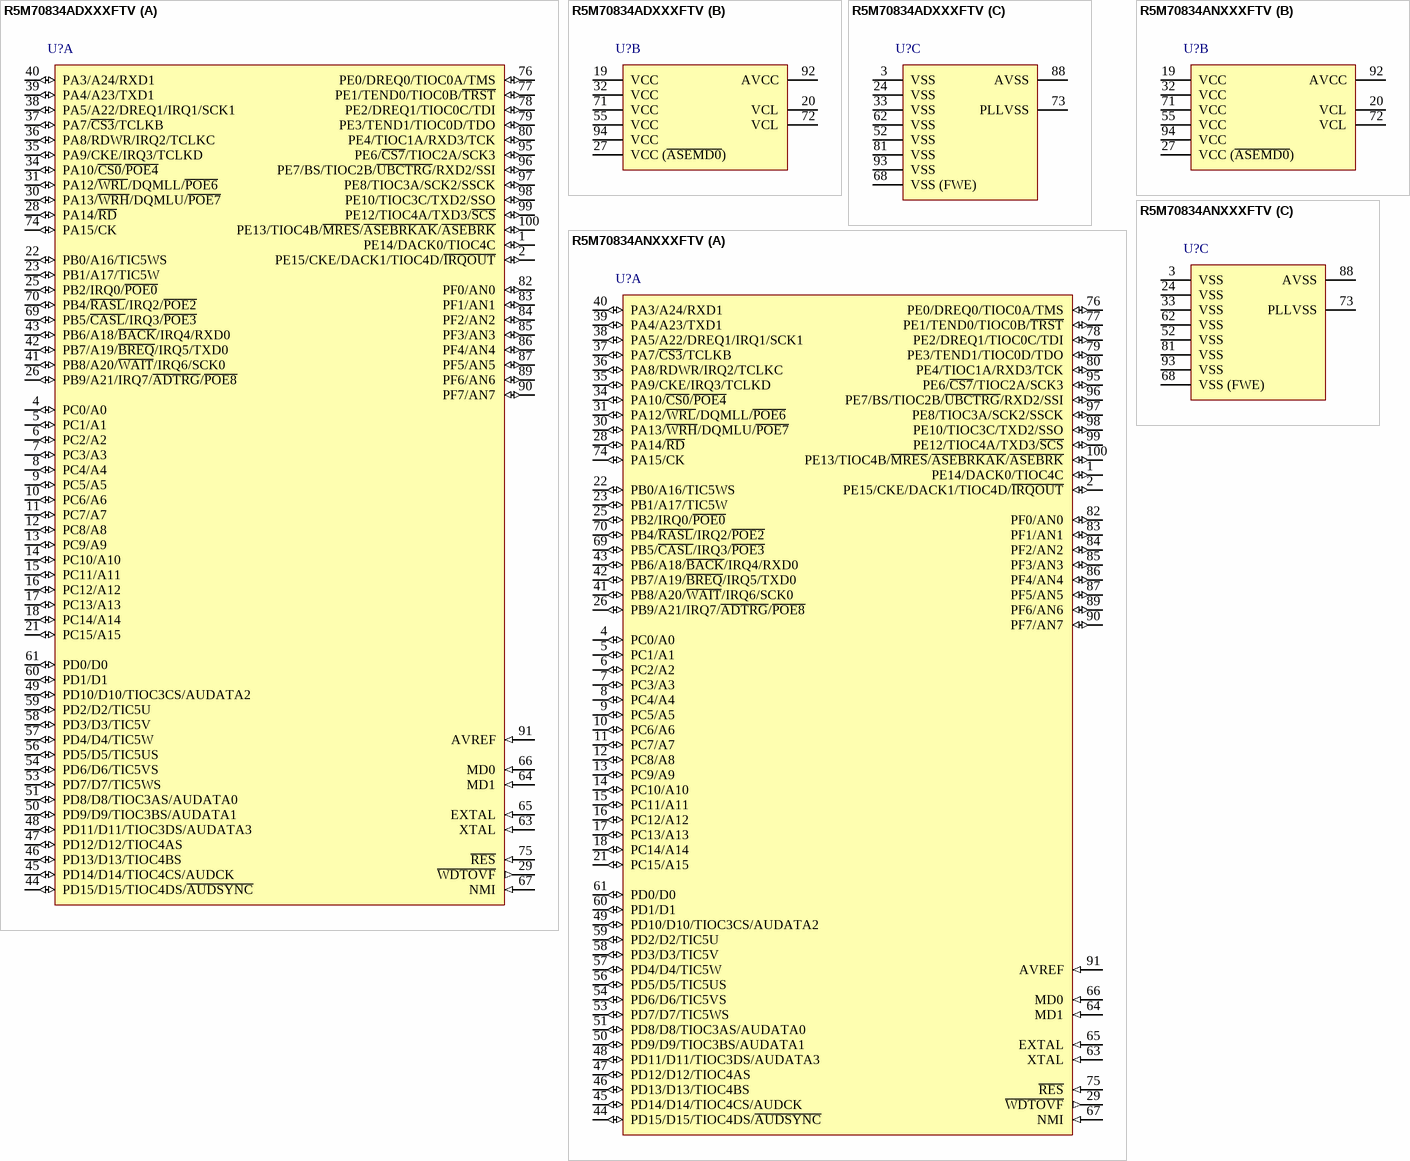
[diagram p195: symbols R5M70834ADXXXFTV to R5M70834ANXXXFTV]